# Altium integrated library Atmel Microcontroller megaAVR.IntLib: 654 symbols (part 27 of 29)
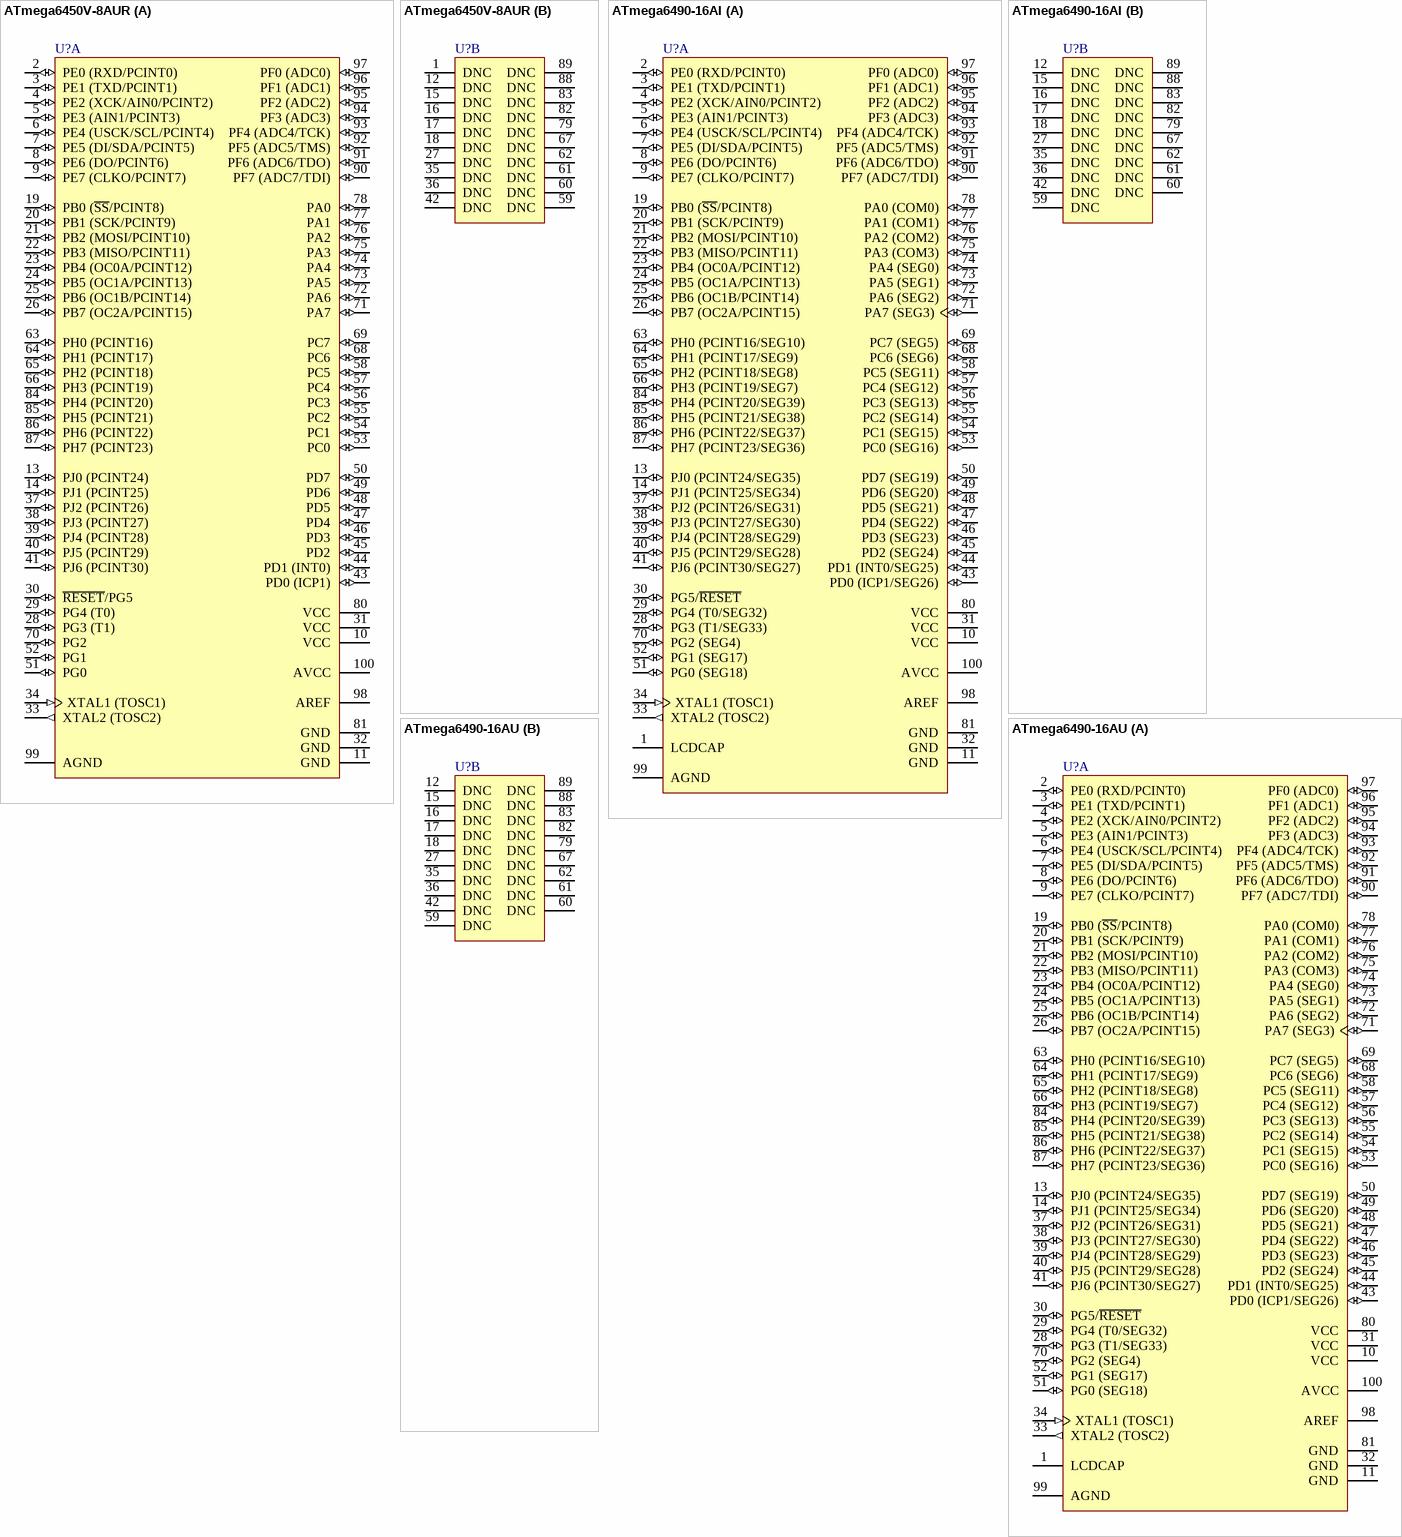
[diagram p113: symbols ATmega6450V-8AUR to ATmega6490-16AU]

## ATmega6490-16AI
designator U?
8-bit AVR Microcontroller, 2.7-5.5V, 64KB Flash, 2KB EEPROM, 4KB SRAM, 100-pin TQFP, Industrial Grade (-40°C to 85°C); DatasheetVersion: revJ, Aug-2007; PackageVersion: revD, Oct-2010; PackageReference: 100A; PackageDescription: 100-Pin Thin Profile Plastic Quad Flat Pack (TQFP), 14 x 14 x 1.0 mm Body, 0.5 mm Pitch; Code_JEDEC: MS-026-AED; ComponentLink1Description: Manufacturer URL; ComponentLink1URL: http://www.atmel.com/
footprint 100A_N (Thin QFP, 100-Leads, Body 14x14mm, Pitch 0.5mm, IPC Medium Density)
footprint 100A_L (Thin QFP, 100-Leads, Body 14x14mm, Pitch 0.5mm, IPC High Density)
footprint 100A_M (Thin QFP, 100-Leads, Body 14x14mm, Pitch 0.5mm, IPC Low Density)
part A pins: 1 LCDCAP, 2 PE0 (RXD/PCINT0) (io), 3 PE1 (TXD/PCINT1) (io), 4 PE2 (XCK/AIN0/PCINT2) (io), 5 PE3 (AIN1/PCINT3) (io), 6 PE4 (USCK/SCL/PCINT4) (io), 7 PE5 (DI/SDA/PCINT5) (io), 8 PE6 (DO/PCINT6) (io), 9 PE7 (CLKO/PCINT7) (io), 10 VCC (power), 11 GND (power), 13 PJ0 (PCINT24/SEG35) (io), 14 PJ1 (PCINT25/SEG34) (io), 19 PB0 (~{SS}/PCINT8) (io), 20 PB1 (SCK/PCINT9) (io), 21 PB2 (MOSI/PCINT10) (io), 22 PB3 (MISO/PCINT11) (io), 23 PB4 (OC0A/PCINT12) (io), 24 PB5 (OC1A/PCINT13) (io), 25 PB6 (OC1B/PCINT14) (io), 26 PB7 (OC2A/PCINT15) (io), 28 PG3 (T1/SEG33) (io), 29 PG4 (T0/SEG32) (io), 30 PG5/~{RESET} (io), 31 VCC (power), 32 GND (power), 33 XTAL2 (TOSC2) (out), 34 XTAL1 (TOSC1) (in), 37 PJ2 (PCINT26/SEG31) (io), 38 PJ3 (PCINT27/SEG30) (io), 39 PJ4 (PCINT28/SEG29) (io), 40 PJ5 (PCINT29/SEG28) (io), 41 PJ6 (PCINT30/SEG27) (io), 43 PD0 (ICP1/SEG26) (io), 44 PD1 (INT0/SEG25) (io), 45 PD2 (SEG24) (io), 46 PD3 (SEG23) (io), 47 PD4 (SEG22) (io), 48 PD5 (SEG21) (io), 49 PD6 (SEG20) (io), 50 PD7 (SEG19) (io), 51 PG0 (SEG18) (io), 52 PG1 (SEG17) (io), 53 PC0 (SEG16) (io), 54 PC1 (SEG15) (io), 55 PC2 (SEG14) (io), 56 PC3 (SEG13) (io), 57 PC4 (SEG12) (io), 58 PC5 (SEG11) (io), 63 PH0 (PCINT16/SEG10) (io), 64 PH1 (PCINT17/SEG9) (io), 65 PH2 (PCINT18/SEG8) (io), 66 PH3 (PCINT19/SEG7) (io), 68 PC6 (SEG6) (io), 69 PC7 (SEG5) (io), 70 PG2 (SEG4) (io), 71 PA7 (SEG3) (io), 72 PA6 (SEG2) (io), 73 PA5 (SEG1) (io), 74 PA4 (SEG0) (io), 75 PA3 (COM3) (io), 76 PA2 (COM2) (io), 77 PA1 (COM1) (io), 78 PA0 (COM0) (io), 80 VCC (power), 81 GND (power), 84 PH4 (PCINT20/SEG39) (io), 85 PH5 (PCINT21/SEG38) (io), 86 PH6 (PCINT22/SEG37) (io), 87 PH7 (PCINT23/SEG36) (io), 90 PF7 (ADC7/TDI) (io), 91 PF6 (ADC6/TDO) (io), 92 PF5 (ADC5/TMS) (io), 93 PF4 (ADC4/TCK) (io), 94 PF3 (ADC3) (io), 95 PF2 (ADC2) (io), 96 PF1 (ADC1) (io), 97 PF0 (ADC0) (io), 98 AREF (power), 99 AGND (power), 100 AVCC (power)
part B pins: 12 DNC, 15 DNC, 16 DNC, 17 DNC, 18 DNC, 27 DNC, 35 DNC, 36 DNC, 42 DNC, 59 DNC, 60 DNC, 61 DNC, 62 DNC, 67 DNC, 79 DNC, 82 DNC, 83 DNC, 88 DNC, 89 DNC

## ATmega6490-16AU
designator U?
8-bit AVR Microcontroller, 2.7-5.5V, 64KB Flash, 2KB EEPROM, 4KB SRAM, 100-pin TQFP, Industrial Grade (-40°C to 85°C); DatasheetVersion: revK, Apr-2011; PackageVersion: revD, Oct-2010; PackageReference: 100A; PackageDescription: 100-Pin Thin Profile Plastic Quad Flat Pack (TQFP), 14 x 14 x 1.0 mm Body, 0.5 mm Pitch; Code_JEDEC: MS-026-AED; ComponentLink1Description: Manufacturer URL; ComponentLink1URL: http://www.atmel.com/; ComponentLink2Description: ATmega329/3290/649/6490 Datasheet; ComponentLink2URL: http://www.atmel.com/dyn/resources/prod_documents/doc2552.pdf; ComponentLink3Description: ATmega329/3290/649/6490 Summary; ComponentLink3URL: http://www.atmel.com/dyn/resources/prod_documents/2552S.pdf
footprint 100A_N (Thin QFP, 100-Leads, Body 14x14mm, Pitch 0.5mm, IPC Medium Density)
footprint 100A_L (Thin QFP, 100-Leads, Body 14x14mm, Pitch 0.5mm, IPC High Density)
footprint 100A_M (Thin QFP, 100-Leads, Body 14x14mm, Pitch 0.5mm, IPC Low Density)
part A pins: 1 LCDCAP, 2 PE0 (RXD/PCINT0) (io), 3 PE1 (TXD/PCINT1) (io), 4 PE2 (XCK/AIN0/PCINT2) (io), 5 PE3 (AIN1/PCINT3) (io), 6 PE4 (USCK/SCL/PCINT4) (io), 7 PE5 (DI/SDA/PCINT5) (io), 8 PE6 (DO/PCINT6) (io), 9 PE7 (CLKO/PCINT7) (io), 10 VCC (power), 11 GND (power), 13 PJ0 (PCINT24/SEG35) (io), 14 PJ1 (PCINT25/SEG34) (io), 19 PB0 (~{SS}/PCINT8) (io), 20 PB1 (SCK/PCINT9) (io), 21 PB2 (MOSI/PCINT10) (io), 22 PB3 (MISO/PCINT11) (io), 23 PB4 (OC0A/PCINT12) (io), 24 PB5 (OC1A/PCINT13) (io), 25 PB6 (OC1B/PCINT14) (io), 26 PB7 (OC2A/PCINT15) (io), 28 PG3 (T1/SEG33) (io), 29 PG4 (T0/SEG32) (io), 30 PG5/~{RESET} (io), 31 VCC (power), 32 GND (power), 33 XTAL2 (TOSC2) (out), 34 XTAL1 (TOSC1) (in), 37 PJ2 (PCINT26/SEG31) (io), 38 PJ3 (PCINT27/SEG30) (io), 39 PJ4 (PCINT28/SEG29) (io), 40 PJ5 (PCINT29/SEG28) (io), 41 PJ6 (PCINT30/SEG27) (io), 43 PD0 (ICP1/SEG26) (io), 44 PD1 (INT0/SEG25) (io), 45 PD2 (SEG24) (io), 46 PD3 (SEG23) (io), 47 PD4 (SEG22) (io), 48 PD5 (SEG21) (io), 49 PD6 (SEG20) (io), 50 PD7 (SEG19) (io), 51 PG0 (SEG18) (io), 52 PG1 (SEG17) (io), 53 PC0 (SEG16) (io), 54 PC1 (SEG15) (io), 55 PC2 (SEG14) (io), 56 PC3 (SEG13) (io), 57 PC4 (SEG12) (io), 58 PC5 (SEG11) (io), 63 PH0 (PCINT16/SEG10) (io), 64 PH1 (PCINT17/SEG9) (io), 65 PH2 (PCINT18/SEG8) (io), 66 PH3 (PCINT19/SEG7) (io), 68 PC6 (SEG6) (io), 69 PC7 (SEG5) (io), 70 PG2 (SEG4) (io), 71 PA7 (SEG3) (io), 72 PA6 (SEG2) (io), 73 PA5 (SEG1) (io), 74 PA4 (SEG0) (io), 75 PA3 (COM3) (io), 76 PA2 (COM2) (io), 77 PA1 (COM1) (io), 78 PA0 (COM0) (io), 80 VCC (power), 81 GND (power), 84 PH4 (PCINT20/SEG39) (io), 85 PH5 (PCINT21/SEG38) (io), 86 PH6 (PCINT22/SEG37) (io), 87 PH7 (PCINT23/SEG36) (io), 90 PF7 (ADC7/TDI) (io), 91 PF6 (ADC6/TDO) (io), 92 PF5 (ADC5/TMS) (io), 93 PF4 (ADC4/TCK) (io), 94 PF3 (ADC3) (io), 95 PF2 (ADC2) (io), 96 PF1 (ADC1) (io), 97 PF0 (ADC0) (io), 98 AREF (power), 99 AGND (power), 100 AVCC (power)
part B pins: 12 DNC, 15 DNC, 16 DNC, 17 DNC, 18 DNC, 27 DNC, 35 DNC, 36 DNC, 42 DNC, 59 DNC, 60 DNC, 61 DNC, 62 DNC, 67 DNC, 79 DNC, 82 DNC, 83 DNC, 88 DNC, 89 DNC

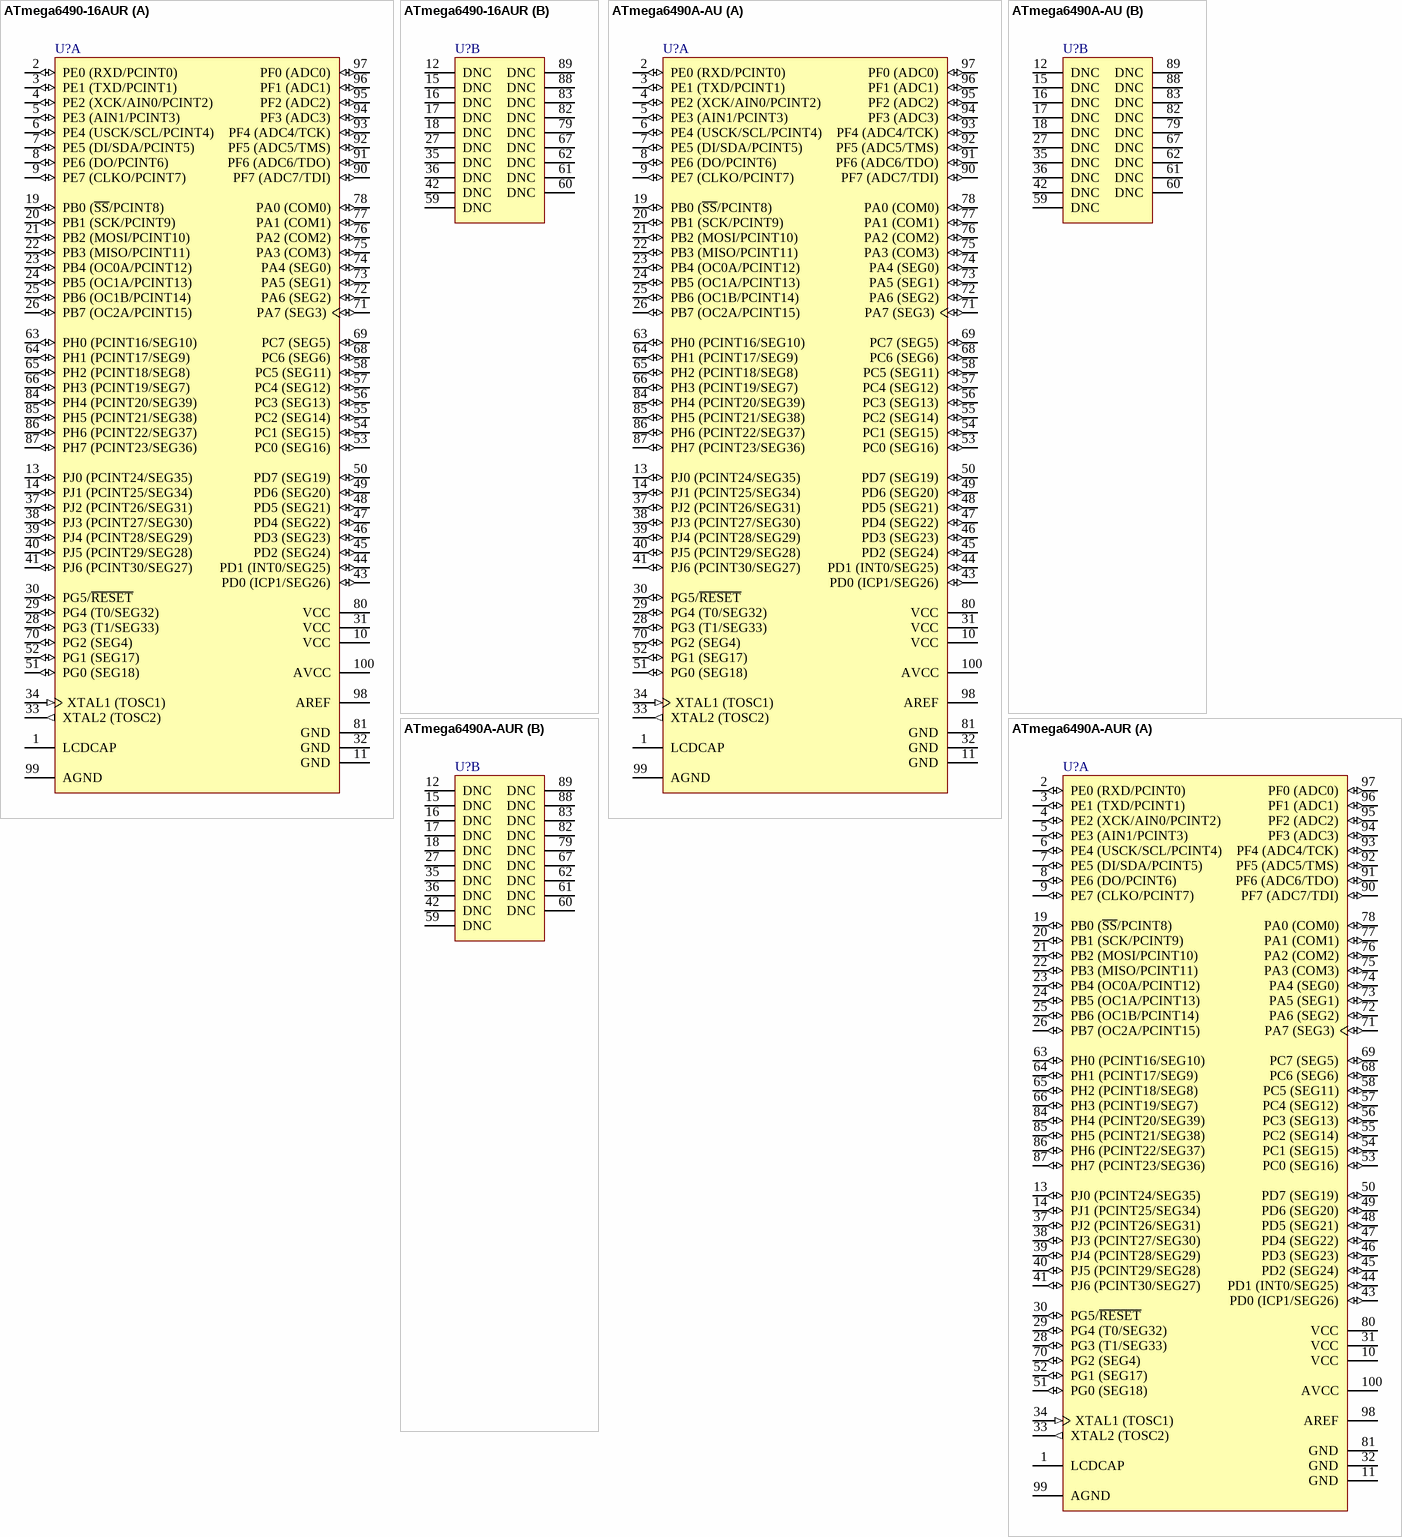
[diagram p81: symbols ATmega6490-16AUR to ATmega6490A-AUR]

## ATmega6490-16AUR
designator U?
8-bit AVR Microcontroller, 2.7-5.5V, 64KB Flash, 2KB EEPROM, 4KB SRAM, 100-pin TQFP, Industrial Grade (-40°C to 85°C), Reel; DatasheetVersion: revK, Apr-2011; PackageVersion: revD, Oct-2010; PackageReference: 100A; PackageDescription: 100-Pin Thin Profile Plastic Quad Flat Pack (TQFP), 14 x 14 x 1.0 mm Body, 0.5 mm Pitch; Code_JEDEC: MS-026-AED; ComponentLink1Description: Manufacturer URL; ComponentLink1URL: http://www.atmel.com/; ComponentLink2Description: ATmega329/3290/649/6490 Datasheet; ComponentLink2URL: http://www.atmel.com/dyn/resources/prod_documents/doc2552.pdf; ComponentLink3Description: ATmega329/3290/649/6490 Summary; ComponentLink3URL: http://www.atmel.com/dyn/resources/prod_documents/2552S.pdf
footprint 100A_N (Thin QFP, 100-Leads, Body 14x14mm, Pitch 0.5mm, IPC Medium Density)
footprint 100A_L (Thin QFP, 100-Leads, Body 14x14mm, Pitch 0.5mm, IPC High Density)
footprint 100A_M (Thin QFP, 100-Leads, Body 14x14mm, Pitch 0.5mm, IPC Low Density)
part A pins: 1 LCDCAP, 2 PE0 (RXD/PCINT0) (io), 3 PE1 (TXD/PCINT1) (io), 4 PE2 (XCK/AIN0/PCINT2) (io), 5 PE3 (AIN1/PCINT3) (io), 6 PE4 (USCK/SCL/PCINT4) (io), 7 PE5 (DI/SDA/PCINT5) (io), 8 PE6 (DO/PCINT6) (io), 9 PE7 (CLKO/PCINT7) (io), 10 VCC (power), 11 GND (power), 13 PJ0 (PCINT24/SEG35) (io), 14 PJ1 (PCINT25/SEG34) (io), 19 PB0 (~{SS}/PCINT8) (io), 20 PB1 (SCK/PCINT9) (io), 21 PB2 (MOSI/PCINT10) (io), 22 PB3 (MISO/PCINT11) (io), 23 PB4 (OC0A/PCINT12) (io), 24 PB5 (OC1A/PCINT13) (io), 25 PB6 (OC1B/PCINT14) (io), 26 PB7 (OC2A/PCINT15) (io), 28 PG3 (T1/SEG33) (io), 29 PG4 (T0/SEG32) (io), 30 PG5/~{RESET} (io), 31 VCC (power), 32 GND (power), 33 XTAL2 (TOSC2) (out), 34 XTAL1 (TOSC1) (in), 37 PJ2 (PCINT26/SEG31) (io), 38 PJ3 (PCINT27/SEG30) (io), 39 PJ4 (PCINT28/SEG29) (io), 40 PJ5 (PCINT29/SEG28) (io), 41 PJ6 (PCINT30/SEG27) (io), 43 PD0 (ICP1/SEG26) (io), 44 PD1 (INT0/SEG25) (io), 45 PD2 (SEG24) (io), 46 PD3 (SEG23) (io), 47 PD4 (SEG22) (io), 48 PD5 (SEG21) (io), 49 PD6 (SEG20) (io), 50 PD7 (SEG19) (io), 51 PG0 (SEG18) (io), 52 PG1 (SEG17) (io), 53 PC0 (SEG16) (io), 54 PC1 (SEG15) (io), 55 PC2 (SEG14) (io), 56 PC3 (SEG13) (io), 57 PC4 (SEG12) (io), 58 PC5 (SEG11) (io), 63 PH0 (PCINT16/SEG10) (io), 64 PH1 (PCINT17/SEG9) (io), 65 PH2 (PCINT18/SEG8) (io), 66 PH3 (PCINT19/SEG7) (io), 68 PC6 (SEG6) (io), 69 PC7 (SEG5) (io), 70 PG2 (SEG4) (io), 71 PA7 (SEG3) (io), 72 PA6 (SEG2) (io), 73 PA5 (SEG1) (io), 74 PA4 (SEG0) (io), 75 PA3 (COM3) (io), 76 PA2 (COM2) (io), 77 PA1 (COM1) (io), 78 PA0 (COM0) (io), 80 VCC (power), 81 GND (power), 84 PH4 (PCINT20/SEG39) (io), 85 PH5 (PCINT21/SEG38) (io), 86 PH6 (PCINT22/SEG37) (io), 87 PH7 (PCINT23/SEG36) (io), 90 PF7 (ADC7/TDI) (io), 91 PF6 (ADC6/TDO) (io), 92 PF5 (ADC5/TMS) (io), 93 PF4 (ADC4/TCK) (io), 94 PF3 (ADC3) (io), 95 PF2 (ADC2) (io), 96 PF1 (ADC1) (io), 97 PF0 (ADC0) (io), 98 AREF (power), 99 AGND (power), 100 AVCC (power)
part B pins: 12 DNC, 15 DNC, 16 DNC, 17 DNC, 18 DNC, 27 DNC, 35 DNC, 36 DNC, 42 DNC, 59 DNC, 60 DNC, 61 DNC, 62 DNC, 67 DNC, 79 DNC, 82 DNC, 83 DNC, 88 DNC, 89 DNC

## ATmega6490A-AU
designator U?
8-bit AVR Microcontroller, 1.8-5.5V, 64KB Flash, 2KB EEPROM, 4KB SRAM, 100-pin TQFP, Industrial Grade (-40°C to 85°C); DatasheetVersion: revD, Jun-2011; PackageVersion: revD, Oct-2010; PackageReference: 100A; PackageDescription: 100-Pin Thin Profile Plastic Quad Flat Pack (TQFP), 14 x 14 x 1.0 mm Body, 0.5 mm Pitch; Code_JEDEC: MS-026-AED; ComponentLink1Description: Manufacturer URL; ComponentLink1URL: http://www.atmel.com/; ComponentLink2Description: ATmega169A/PA/329A/PA/3290A/PA/649A/P/6490A/P; ComponentLink2URL: http://www.atmel.com/dyn/resources/prod_documents/doc8284.pdf; ComponentLink3Description: ATmega169A/PA/329A/PA/3290A/PA/649A/P/6490/A/P Summary; ComponentLink3URL: http://www.atmel.com/dyn/resources/prod_documents/8284S.pdf
footprint 100A_N (Thin QFP, 100-Leads, Body 14x14mm, Pitch 0.5mm, IPC Medium Density)
footprint 100A_L (Thin QFP, 100-Leads, Body 14x14mm, Pitch 0.5mm, IPC High Density)
footprint 100A_M (Thin QFP, 100-Leads, Body 14x14mm, Pitch 0.5mm, IPC Low Density)
part A pins: 1 LCDCAP, 2 PE0 (RXD/PCINT0) (io), 3 PE1 (TXD/PCINT1) (io), 4 PE2 (XCK/AIN0/PCINT2) (io), 5 PE3 (AIN1/PCINT3) (io), 6 PE4 (USCK/SCL/PCINT4) (io), 7 PE5 (DI/SDA/PCINT5) (io), 8 PE6 (DO/PCINT6) (io), 9 PE7 (CLKO/PCINT7) (io), 10 VCC (power), 11 GND (power), 13 PJ0 (PCINT24/SEG35) (io), 14 PJ1 (PCINT25/SEG34) (io), 19 PB0 (~{SS}/PCINT8) (io), 20 PB1 (SCK/PCINT9) (io), 21 PB2 (MOSI/PCINT10) (io), 22 PB3 (MISO/PCINT11) (io), 23 PB4 (OC0A/PCINT12) (io), 24 PB5 (OC1A/PCINT13) (io), 25 PB6 (OC1B/PCINT14) (io), 26 PB7 (OC2A/PCINT15) (io), 28 PG3 (T1/SEG33) (io), 29 PG4 (T0/SEG32) (io), 30 PG5/~{RESET} (io), 31 VCC (power), 32 GND (power), 33 XTAL2 (TOSC2) (out), 34 XTAL1 (TOSC1) (in), 37 PJ2 (PCINT26/SEG31) (io), 38 PJ3 (PCINT27/SEG30) (io), 39 PJ4 (PCINT28/SEG29) (io), 40 PJ5 (PCINT29/SEG28) (io), 41 PJ6 (PCINT30/SEG27) (io), 43 PD0 (ICP1/SEG26) (io), 44 PD1 (INT0/SEG25) (io), 45 PD2 (SEG24) (io), 46 PD3 (SEG23) (io), 47 PD4 (SEG22) (io), 48 PD5 (SEG21) (io), 49 PD6 (SEG20) (io), 50 PD7 (SEG19) (io), 51 PG0 (SEG18) (io), 52 PG1 (SEG17) (io), 53 PC0 (SEG16) (io), 54 PC1 (SEG15) (io), 55 PC2 (SEG14) (io), 56 PC3 (SEG13) (io), 57 PC4 (SEG12) (io), 58 PC5 (SEG11) (io), 63 PH0 (PCINT16/SEG10) (io), 64 PH1 (PCINT17/SEG9) (io), 65 PH2 (PCINT18/SEG8) (io), 66 PH3 (PCINT19/SEG7) (io), 68 PC6 (SEG6) (io), 69 PC7 (SEG5) (io), 70 PG2 (SEG4) (io), 71 PA7 (SEG3) (io), 72 PA6 (SEG2) (io), 73 PA5 (SEG1) (io), 74 PA4 (SEG0) (io), 75 PA3 (COM3) (io), 76 PA2 (COM2) (io), 77 PA1 (COM1) (io), 78 PA0 (COM0) (io), 80 VCC (power), 81 GND (power), 84 PH4 (PCINT20/SEG39) (io), 85 PH5 (PCINT21/SEG38) (io), 86 PH6 (PCINT22/SEG37) (io), 87 PH7 (PCINT23/SEG36) (io), 90 PF7 (ADC7/TDI) (io), 91 PF6 (ADC6/TDO) (io), 92 PF5 (ADC5/TMS) (io), 93 PF4 (ADC4/TCK) (io), 94 PF3 (ADC3) (io), 95 PF2 (ADC2) (io), 96 PF1 (ADC1) (io), 97 PF0 (ADC0) (io), 98 AREF (power), 99 AGND (power), 100 AVCC (power)
part B pins: 12 DNC, 15 DNC, 16 DNC, 17 DNC, 18 DNC, 27 DNC, 35 DNC, 36 DNC, 42 DNC, 59 DNC, 60 DNC, 61 DNC, 62 DNC, 67 DNC, 79 DNC, 82 DNC, 83 DNC, 88 DNC, 89 DNC

## ATmega6490A-AUR
designator U?
8-bit AVR Microcontroller, 1.8-5.5V, 64KB Flash, 2KB EEPROM, 4KB SRAM, 100-pin TQFP, Industrial Grade (-40°C to 85°C), Reel; DatasheetVersion: revD, Jun-2011; PackageVersion: revD, Oct-2010; PackageReference: 100A; PackageDescription: 100-Pin Thin Profile Plastic Quad Flat Pack (TQFP), 14 x 14 x 1.0 mm Body, 0.5 mm Pitch; Code_JEDEC: MS-026-AED; ComponentLink1Description: Manufacturer URL; ComponentLink1URL: http://www.atmel.com/; ComponentLink2Description: ATmega169A/PA/329A/PA/3290A/PA/649A/P/6490A/P; ComponentLink2URL: http://www.atmel.com/dyn/resources/prod_documents/doc8284.pdf; ComponentLink3Description: ATmega169A/PA/329A/PA/3290A/PA/649A/P/6490/A/P Summary; ComponentLink3URL: http://www.atmel.com/dyn/resources/prod_documents/8284S.pdf
footprint 100A_N (Thin QFP, 100-Leads, Body 14x14mm, Pitch 0.5mm, IPC Medium Density)
footprint 100A_L (Thin QFP, 100-Leads, Body 14x14mm, Pitch 0.5mm, IPC High Density)
footprint 100A_M (Thin QFP, 100-Leads, Body 14x14mm, Pitch 0.5mm, IPC Low Density)
part A pins: 1 LCDCAP, 2 PE0 (RXD/PCINT0) (io), 3 PE1 (TXD/PCINT1) (io), 4 PE2 (XCK/AIN0/PCINT2) (io), 5 PE3 (AIN1/PCINT3) (io), 6 PE4 (USCK/SCL/PCINT4) (io), 7 PE5 (DI/SDA/PCINT5) (io), 8 PE6 (DO/PCINT6) (io), 9 PE7 (CLKO/PCINT7) (io), 10 VCC (power), 11 GND (power), 13 PJ0 (PCINT24/SEG35) (io), 14 PJ1 (PCINT25/SEG34) (io), 19 PB0 (~{SS}/PCINT8) (io), 20 PB1 (SCK/PCINT9) (io), 21 PB2 (MOSI/PCINT10) (io), 22 PB3 (MISO/PCINT11) (io), 23 PB4 (OC0A/PCINT12) (io), 24 PB5 (OC1A/PCINT13) (io), 25 PB6 (OC1B/PCINT14) (io), 26 PB7 (OC2A/PCINT15) (io), 28 PG3 (T1/SEG33) (io), 29 PG4 (T0/SEG32) (io), 30 PG5/~{RESET} (io), 31 VCC (power), 32 GND (power), 33 XTAL2 (TOSC2) (out), 34 XTAL1 (TOSC1) (in), 37 PJ2 (PCINT26/SEG31) (io), 38 PJ3 (PCINT27/SEG30) (io), 39 PJ4 (PCINT28/SEG29) (io), 40 PJ5 (PCINT29/SEG28) (io), 41 PJ6 (PCINT30/SEG27) (io), 43 PD0 (ICP1/SEG26) (io), 44 PD1 (INT0/SEG25) (io), 45 PD2 (SEG24) (io), 46 PD3 (SEG23) (io), 47 PD4 (SEG22) (io), 48 PD5 (SEG21) (io), 49 PD6 (SEG20) (io), 50 PD7 (SEG19) (io), 51 PG0 (SEG18) (io), 52 PG1 (SEG17) (io), 53 PC0 (SEG16) (io), 54 PC1 (SEG15) (io), 55 PC2 (SEG14) (io), 56 PC3 (SEG13) (io), 57 PC4 (SEG12) (io), 58 PC5 (SEG11) (io), 63 PH0 (PCINT16/SEG10) (io), 64 PH1 (PCINT17/SEG9) (io), 65 PH2 (PCINT18/SEG8) (io), 66 PH3 (PCINT19/SEG7) (io), 68 PC6 (SEG6) (io), 69 PC7 (SEG5) (io), 70 PG2 (SEG4) (io), 71 PA7 (SEG3) (io), 72 PA6 (SEG2) (io), 73 PA5 (SEG1) (io), 74 PA4 (SEG0) (io), 75 PA3 (COM3) (io), 76 PA2 (COM2) (io), 77 PA1 (COM1) (io), 78 PA0 (COM0) (io), 80 VCC (power), 81 GND (power), 84 PH4 (PCINT20/SEG39) (io), 85 PH5 (PCINT21/SEG38) (io), 86 PH6 (PCINT22/SEG37) (io), 87 PH7 (PCINT23/SEG36) (io), 90 PF7 (ADC7/TDI) (io), 91 PF6 (ADC6/TDO) (io), 92 PF5 (ADC5/TMS) (io), 93 PF4 (ADC4/TCK) (io), 94 PF3 (ADC3) (io), 95 PF2 (ADC2) (io), 96 PF1 (ADC1) (io), 97 PF0 (ADC0) (io), 98 AREF (power), 99 AGND (power), 100 AVCC (power)
part B pins: 12 DNC, 15 DNC, 16 DNC, 17 DNC, 18 DNC, 27 DNC, 35 DNC, 36 DNC, 42 DNC, 59 DNC, 60 DNC, 61 DNC, 62 DNC, 67 DNC, 79 DNC, 82 DNC, 83 DNC, 88 DNC, 89 DNC

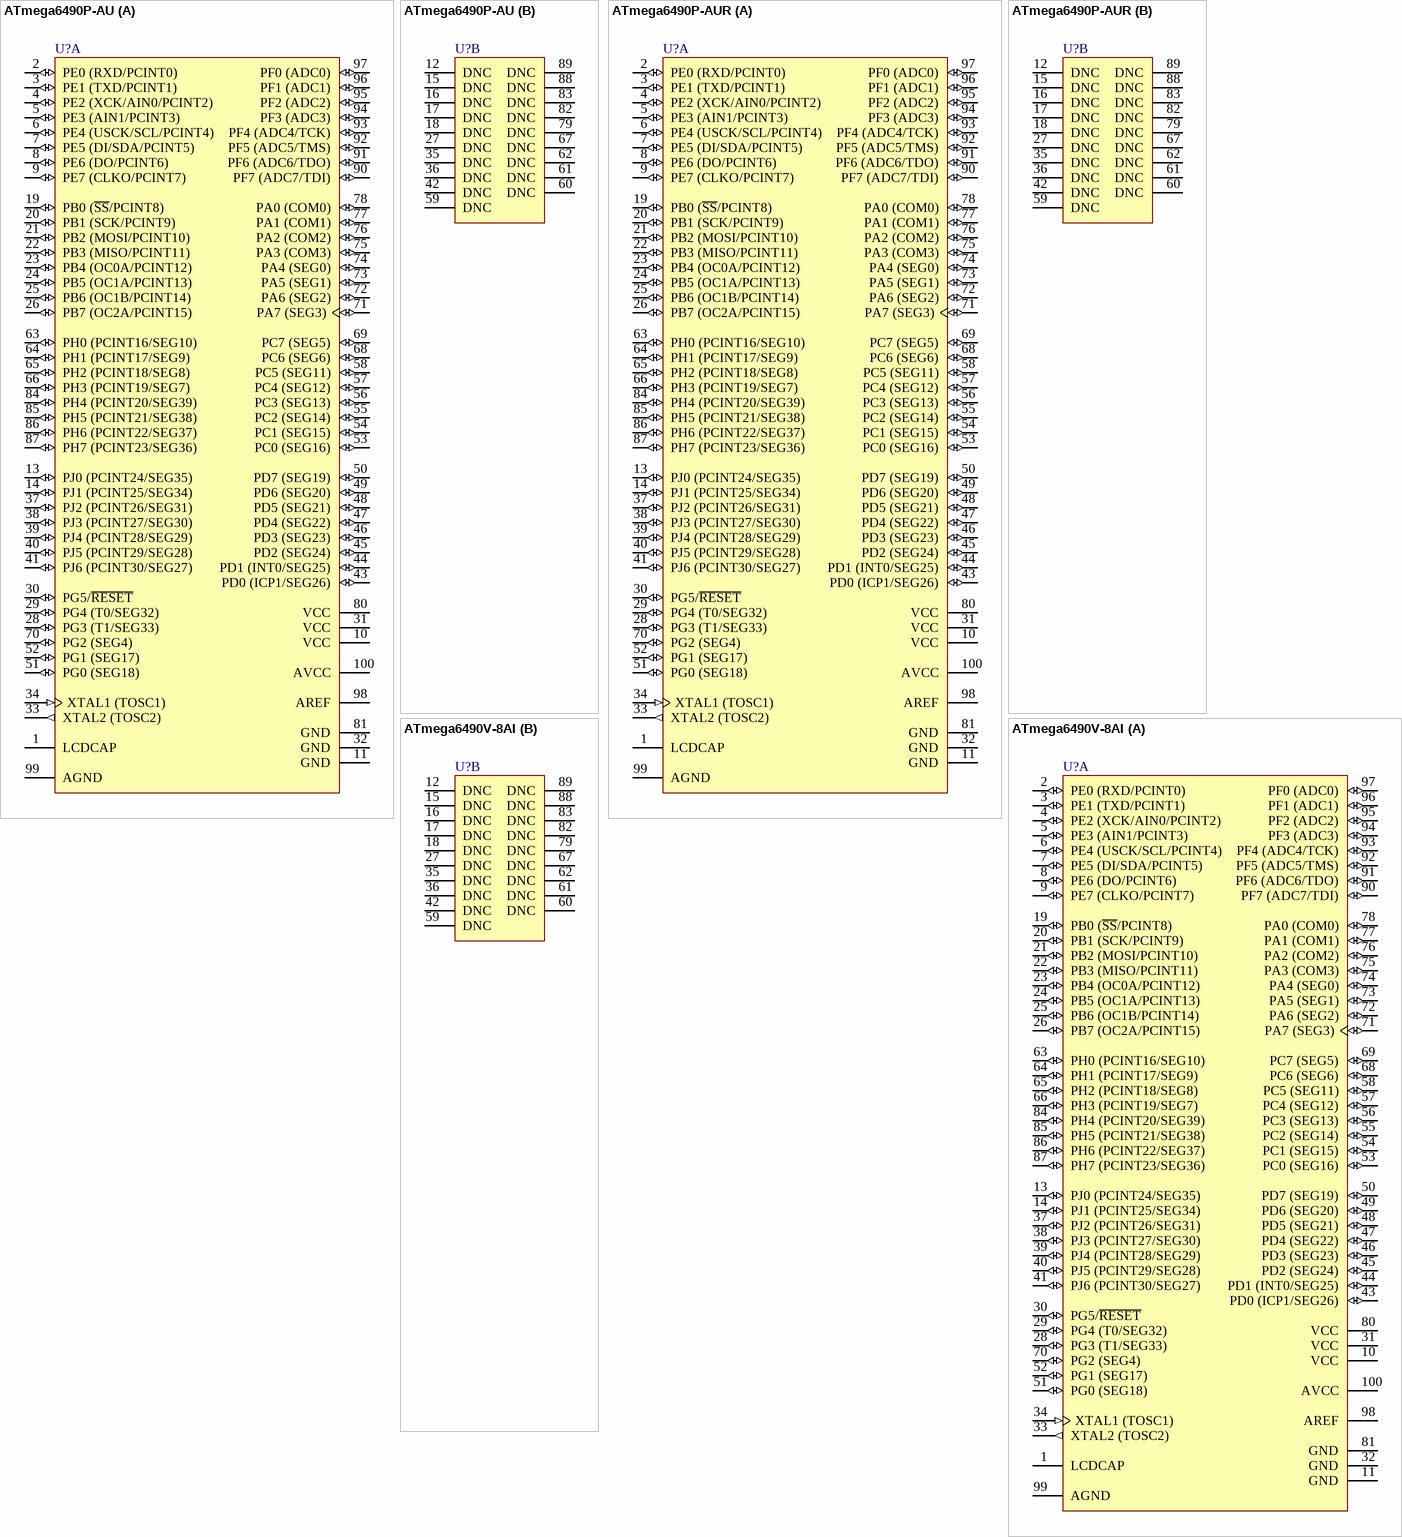
[diagram p82: symbols ATmega6490P-AU to ATmega6490V-8AI]

## ATmega6490P-AU
designator U?
8-bit AVR Microcontroller, 1.8-5.5V, 64KB Flash, 2KB EEPROM, 4KB SRAM, 100-pin TQFP, Industrial Grade (-40°C to 85°C); DatasheetVersion: revD, Jun-2011; PackageVersion: revD, Oct-2010; PackageReference: 100A; PackageDescription: 100-Pin Thin Profile Plastic Quad Flat Pack (TQFP), 14 x 14 x 1.0 mm Body, 0.5 mm Pitch; Code_JEDEC: MS-026-AED; ComponentLink1Description: Manufacturer URL; ComponentLink1URL: http://www.atmel.com/; ComponentLink2Description: ATmega169A/PA/329A/PA/3290A/PA/649A/P/6490A/P; ComponentLink2URL: http://www.atmel.com/dyn/resources/prod_documents/doc8284.pdf; ComponentLink3Description: ATmega169A/PA/329A/PA/3290A/PA/649A/P/6490/A/P Summary; ComponentLink3URL: http://www.atmel.com/dyn/resources/prod_documents/8284S.pdf
footprint 100A_N (Thin QFP, 100-Leads, Body 14x14mm, Pitch 0.5mm, IPC Medium Density)
footprint 100A_L (Thin QFP, 100-Leads, Body 14x14mm, Pitch 0.5mm, IPC High Density)
footprint 100A_M (Thin QFP, 100-Leads, Body 14x14mm, Pitch 0.5mm, IPC Low Density)
part A pins: 1 LCDCAP, 2 PE0 (RXD/PCINT0) (io), 3 PE1 (TXD/PCINT1) (io), 4 PE2 (XCK/AIN0/PCINT2) (io), 5 PE3 (AIN1/PCINT3) (io), 6 PE4 (USCK/SCL/PCINT4) (io), 7 PE5 (DI/SDA/PCINT5) (io), 8 PE6 (DO/PCINT6) (io), 9 PE7 (CLKO/PCINT7) (io), 10 VCC (power), 11 GND (power), 13 PJ0 (PCINT24/SEG35) (io), 14 PJ1 (PCINT25/SEG34) (io), 19 PB0 (~{SS}/PCINT8) (io), 20 PB1 (SCK/PCINT9) (io), 21 PB2 (MOSI/PCINT10) (io), 22 PB3 (MISO/PCINT11) (io), 23 PB4 (OC0A/PCINT12) (io), 24 PB5 (OC1A/PCINT13) (io), 25 PB6 (OC1B/PCINT14) (io), 26 PB7 (OC2A/PCINT15) (io), 28 PG3 (T1/SEG33) (io), 29 PG4 (T0/SEG32) (io), 30 PG5/~{RESET} (io), 31 VCC (power), 32 GND (power), 33 XTAL2 (TOSC2) (out), 34 XTAL1 (TOSC1) (in), 37 PJ2 (PCINT26/SEG31) (io), 38 PJ3 (PCINT27/SEG30) (io), 39 PJ4 (PCINT28/SEG29) (io), 40 PJ5 (PCINT29/SEG28) (io), 41 PJ6 (PCINT30/SEG27) (io), 43 PD0 (ICP1/SEG26) (io), 44 PD1 (INT0/SEG25) (io), 45 PD2 (SEG24) (io), 46 PD3 (SEG23) (io), 47 PD4 (SEG22) (io), 48 PD5 (SEG21) (io), 49 PD6 (SEG20) (io), 50 PD7 (SEG19) (io), 51 PG0 (SEG18) (io), 52 PG1 (SEG17) (io), 53 PC0 (SEG16) (io), 54 PC1 (SEG15) (io), 55 PC2 (SEG14) (io), 56 PC3 (SEG13) (io), 57 PC4 (SEG12) (io), 58 PC5 (SEG11) (io), 63 PH0 (PCINT16/SEG10) (io), 64 PH1 (PCINT17/SEG9) (io), 65 PH2 (PCINT18/SEG8) (io), 66 PH3 (PCINT19/SEG7) (io), 68 PC6 (SEG6) (io), 69 PC7 (SEG5) (io), 70 PG2 (SEG4) (io), 71 PA7 (SEG3) (io), 72 PA6 (SEG2) (io), 73 PA5 (SEG1) (io), 74 PA4 (SEG0) (io), 75 PA3 (COM3) (io), 76 PA2 (COM2) (io), 77 PA1 (COM1) (io), 78 PA0 (COM0) (io), 80 VCC (power), 81 GND (power), 84 PH4 (PCINT20/SEG39) (io), 85 PH5 (PCINT21/SEG38) (io), 86 PH6 (PCINT22/SEG37) (io), 87 PH7 (PCINT23/SEG36) (io), 90 PF7 (ADC7/TDI) (io), 91 PF6 (ADC6/TDO) (io), 92 PF5 (ADC5/TMS) (io), 93 PF4 (ADC4/TCK) (io), 94 PF3 (ADC3) (io), 95 PF2 (ADC2) (io), 96 PF1 (ADC1) (io), 97 PF0 (ADC0) (io), 98 AREF (power), 99 AGND (power), 100 AVCC (power)
part B pins: 12 DNC, 15 DNC, 16 DNC, 17 DNC, 18 DNC, 27 DNC, 35 DNC, 36 DNC, 42 DNC, 59 DNC, 60 DNC, 61 DNC, 62 DNC, 67 DNC, 79 DNC, 82 DNC, 83 DNC, 88 DNC, 89 DNC

## ATmega6490P-AUR
designator U?
8-bit AVR Microcontroller, 1.8-5.5V, 64KB Flash, 2KB EEPROM, 4KB SRAM, 100-pin TQFP, Industrial Grade (-40°C to 85°C), Reel; DatasheetVersion: revD, Jun-2011; PackageVersion: revD, Oct-2010; PackageReference: 100A; PackageDescription: 100-Pin Thin Profile Plastic Quad Flat Pack (TQFP), 14 x 14 x 1.0 mm Body, 0.5 mm Pitch; Code_JEDEC: MS-026-AED; ComponentLink1Description: Manufacturer URL; ComponentLink1URL: http://www.atmel.com/; ComponentLink2Description: ATmega169A/PA/329A/PA/3290A/PA/649A/P/6490A/P; ComponentLink2URL: http://www.atmel.com/dyn/resources/prod_documents/doc8284.pdf; ComponentLink3Description: ATmega169A/PA/329A/PA/3290A/PA/649A/P/6490/A/P Summary; ComponentLink3URL: http://www.atmel.com/dyn/resources/prod_documents/8284S.pdf
footprint 100A_N (Thin QFP, 100-Leads, Body 14x14mm, Pitch 0.5mm, IPC Medium Density)
footprint 100A_L (Thin QFP, 100-Leads, Body 14x14mm, Pitch 0.5mm, IPC High Density)
footprint 100A_M (Thin QFP, 100-Leads, Body 14x14mm, Pitch 0.5mm, IPC Low Density)
part A pins: 1 LCDCAP, 2 PE0 (RXD/PCINT0) (io), 3 PE1 (TXD/PCINT1) (io), 4 PE2 (XCK/AIN0/PCINT2) (io), 5 PE3 (AIN1/PCINT3) (io), 6 PE4 (USCK/SCL/PCINT4) (io), 7 PE5 (DI/SDA/PCINT5) (io), 8 PE6 (DO/PCINT6) (io), 9 PE7 (CLKO/PCINT7) (io), 10 VCC (power), 11 GND (power), 13 PJ0 (PCINT24/SEG35) (io), 14 PJ1 (PCINT25/SEG34) (io), 19 PB0 (~{SS}/PCINT8) (io), 20 PB1 (SCK/PCINT9) (io), 21 PB2 (MOSI/PCINT10) (io), 22 PB3 (MISO/PCINT11) (io), 23 PB4 (OC0A/PCINT12) (io), 24 PB5 (OC1A/PCINT13) (io), 25 PB6 (OC1B/PCINT14) (io), 26 PB7 (OC2A/PCINT15) (io), 28 PG3 (T1/SEG33) (io), 29 PG4 (T0/SEG32) (io), 30 PG5/~{RESET} (io), 31 VCC (power), 32 GND (power), 33 XTAL2 (TOSC2) (out), 34 XTAL1 (TOSC1) (in), 37 PJ2 (PCINT26/SEG31) (io), 38 PJ3 (PCINT27/SEG30) (io), 39 PJ4 (PCINT28/SEG29) (io), 40 PJ5 (PCINT29/SEG28) (io), 41 PJ6 (PCINT30/SEG27) (io), 43 PD0 (ICP1/SEG26) (io), 44 PD1 (INT0/SEG25) (io), 45 PD2 (SEG24) (io), 46 PD3 (SEG23) (io), 47 PD4 (SEG22) (io), 48 PD5 (SEG21) (io), 49 PD6 (SEG20) (io), 50 PD7 (SEG19) (io), 51 PG0 (SEG18) (io), 52 PG1 (SEG17) (io), 53 PC0 (SEG16) (io), 54 PC1 (SEG15) (io), 55 PC2 (SEG14) (io), 56 PC3 (SEG13) (io), 57 PC4 (SEG12) (io), 58 PC5 (SEG11) (io), 63 PH0 (PCINT16/SEG10) (io), 64 PH1 (PCINT17/SEG9) (io), 65 PH2 (PCINT18/SEG8) (io), 66 PH3 (PCINT19/SEG7) (io), 68 PC6 (SEG6) (io), 69 PC7 (SEG5) (io), 70 PG2 (SEG4) (io), 71 PA7 (SEG3) (io), 72 PA6 (SEG2) (io), 73 PA5 (SEG1) (io), 74 PA4 (SEG0) (io), 75 PA3 (COM3) (io), 76 PA2 (COM2) (io), 77 PA1 (COM1) (io), 78 PA0 (COM0) (io), 80 VCC (power), 81 GND (power), 84 PH4 (PCINT20/SEG39) (io), 85 PH5 (PCINT21/SEG38) (io), 86 PH6 (PCINT22/SEG37) (io), 87 PH7 (PCINT23/SEG36) (io), 90 PF7 (ADC7/TDI) (io), 91 PF6 (ADC6/TDO) (io), 92 PF5 (ADC5/TMS) (io), 93 PF4 (ADC4/TCK) (io), 94 PF3 (ADC3) (io), 95 PF2 (ADC2) (io), 96 PF1 (ADC1) (io), 97 PF0 (ADC0) (io), 98 AREF (power), 99 AGND (power), 100 AVCC (power)
part B pins: 12 DNC, 15 DNC, 16 DNC, 17 DNC, 18 DNC, 27 DNC, 35 DNC, 36 DNC, 42 DNC, 59 DNC, 60 DNC, 61 DNC, 62 DNC, 67 DNC, 79 DNC, 82 DNC, 83 DNC, 88 DNC, 89 DNC

## ATmega6490V-8AI
designator U?
8-bit AVR Microcontroller, 1.8-5.5V, 64KB Flash, 2KB EEPROM, 4KB SRAM, 100-pin TQFP, Industrial Grade (-40°C to 85°C); DatasheetVersion: revJ, Aug-2007; PackageVersion: revD, Oct-2010; PackageReference: 100A; PackageDescription: 100-Pin Thin Profile Plastic Quad Flat Pack (TQFP), 14 x 14 x 1.0 mm Body, 0.5 mm Pitch; Code_JEDEC: MS-026-AED; ComponentLink1Description: Manufacturer URL; ComponentLink1URL: http://www.atmel.com/
footprint 100A_N (Thin QFP, 100-Leads, Body 14x14mm, Pitch 0.5mm, IPC Medium Density)
footprint 100A_L (Thin QFP, 100-Leads, Body 14x14mm, Pitch 0.5mm, IPC High Density)
footprint 100A_M (Thin QFP, 100-Leads, Body 14x14mm, Pitch 0.5mm, IPC Low Density)
part A pins: 1 LCDCAP, 2 PE0 (RXD/PCINT0) (io), 3 PE1 (TXD/PCINT1) (io), 4 PE2 (XCK/AIN0/PCINT2) (io), 5 PE3 (AIN1/PCINT3) (io), 6 PE4 (USCK/SCL/PCINT4) (io), 7 PE5 (DI/SDA/PCINT5) (io), 8 PE6 (DO/PCINT6) (io), 9 PE7 (CLKO/PCINT7) (io), 10 VCC (power), 11 GND (power), 13 PJ0 (PCINT24/SEG35) (io), 14 PJ1 (PCINT25/SEG34) (io), 19 PB0 (~{SS}/PCINT8) (io), 20 PB1 (SCK/PCINT9) (io), 21 PB2 (MOSI/PCINT10) (io), 22 PB3 (MISO/PCINT11) (io), 23 PB4 (OC0A/PCINT12) (io), 24 PB5 (OC1A/PCINT13) (io), 25 PB6 (OC1B/PCINT14) (io), 26 PB7 (OC2A/PCINT15) (io), 28 PG3 (T1/SEG33) (io), 29 PG4 (T0/SEG32) (io), 30 PG5/~{RESET} (io), 31 VCC (power), 32 GND (power), 33 XTAL2 (TOSC2) (out), 34 XTAL1 (TOSC1) (in), 37 PJ2 (PCINT26/SEG31) (io), 38 PJ3 (PCINT27/SEG30) (io), 39 PJ4 (PCINT28/SEG29) (io), 40 PJ5 (PCINT29/SEG28) (io), 41 PJ6 (PCINT30/SEG27) (io), 43 PD0 (ICP1/SEG26) (io), 44 PD1 (INT0/SEG25) (io), 45 PD2 (SEG24) (io), 46 PD3 (SEG23) (io), 47 PD4 (SEG22) (io), 48 PD5 (SEG21) (io), 49 PD6 (SEG20) (io), 50 PD7 (SEG19) (io), 51 PG0 (SEG18) (io), 52 PG1 (SEG17) (io), 53 PC0 (SEG16) (io), 54 PC1 (SEG15) (io), 55 PC2 (SEG14) (io), 56 PC3 (SEG13) (io), 57 PC4 (SEG12) (io), 58 PC5 (SEG11) (io), 63 PH0 (PCINT16/SEG10) (io), 64 PH1 (PCINT17/SEG9) (io), 65 PH2 (PCINT18/SEG8) (io), 66 PH3 (PCINT19/SEG7) (io), 68 PC6 (SEG6) (io), 69 PC7 (SEG5) (io), 70 PG2 (SEG4) (io), 71 PA7 (SEG3) (io), 72 PA6 (SEG2) (io), 73 PA5 (SEG1) (io), 74 PA4 (SEG0) (io), 75 PA3 (COM3) (io), 76 PA2 (COM2) (io), 77 PA1 (COM1) (io), 78 PA0 (COM0) (io), 80 VCC (power), 81 GND (power), 84 PH4 (PCINT20/SEG39) (io), 85 PH5 (PCINT21/SEG38) (io), 86 PH6 (PCINT22/SEG37) (io), 87 PH7 (PCINT23/SEG36) (io), 90 PF7 (ADC7/TDI) (io), 91 PF6 (ADC6/TDO) (io), 92 PF5 (ADC5/TMS) (io), 93 PF4 (ADC4/TCK) (io), 94 PF3 (ADC3) (io), 95 PF2 (ADC2) (io), 96 PF1 (ADC1) (io), 97 PF0 (ADC0) (io), 98 AREF (power), 99 AGND (power), 100 AVCC (power)
part B pins: 12 DNC, 15 DNC, 16 DNC, 17 DNC, 18 DNC, 27 DNC, 35 DNC, 36 DNC, 42 DNC, 59 DNC, 60 DNC, 61 DNC, 62 DNC, 67 DNC, 79 DNC, 82 DNC, 83 DNC, 88 DNC, 89 DNC

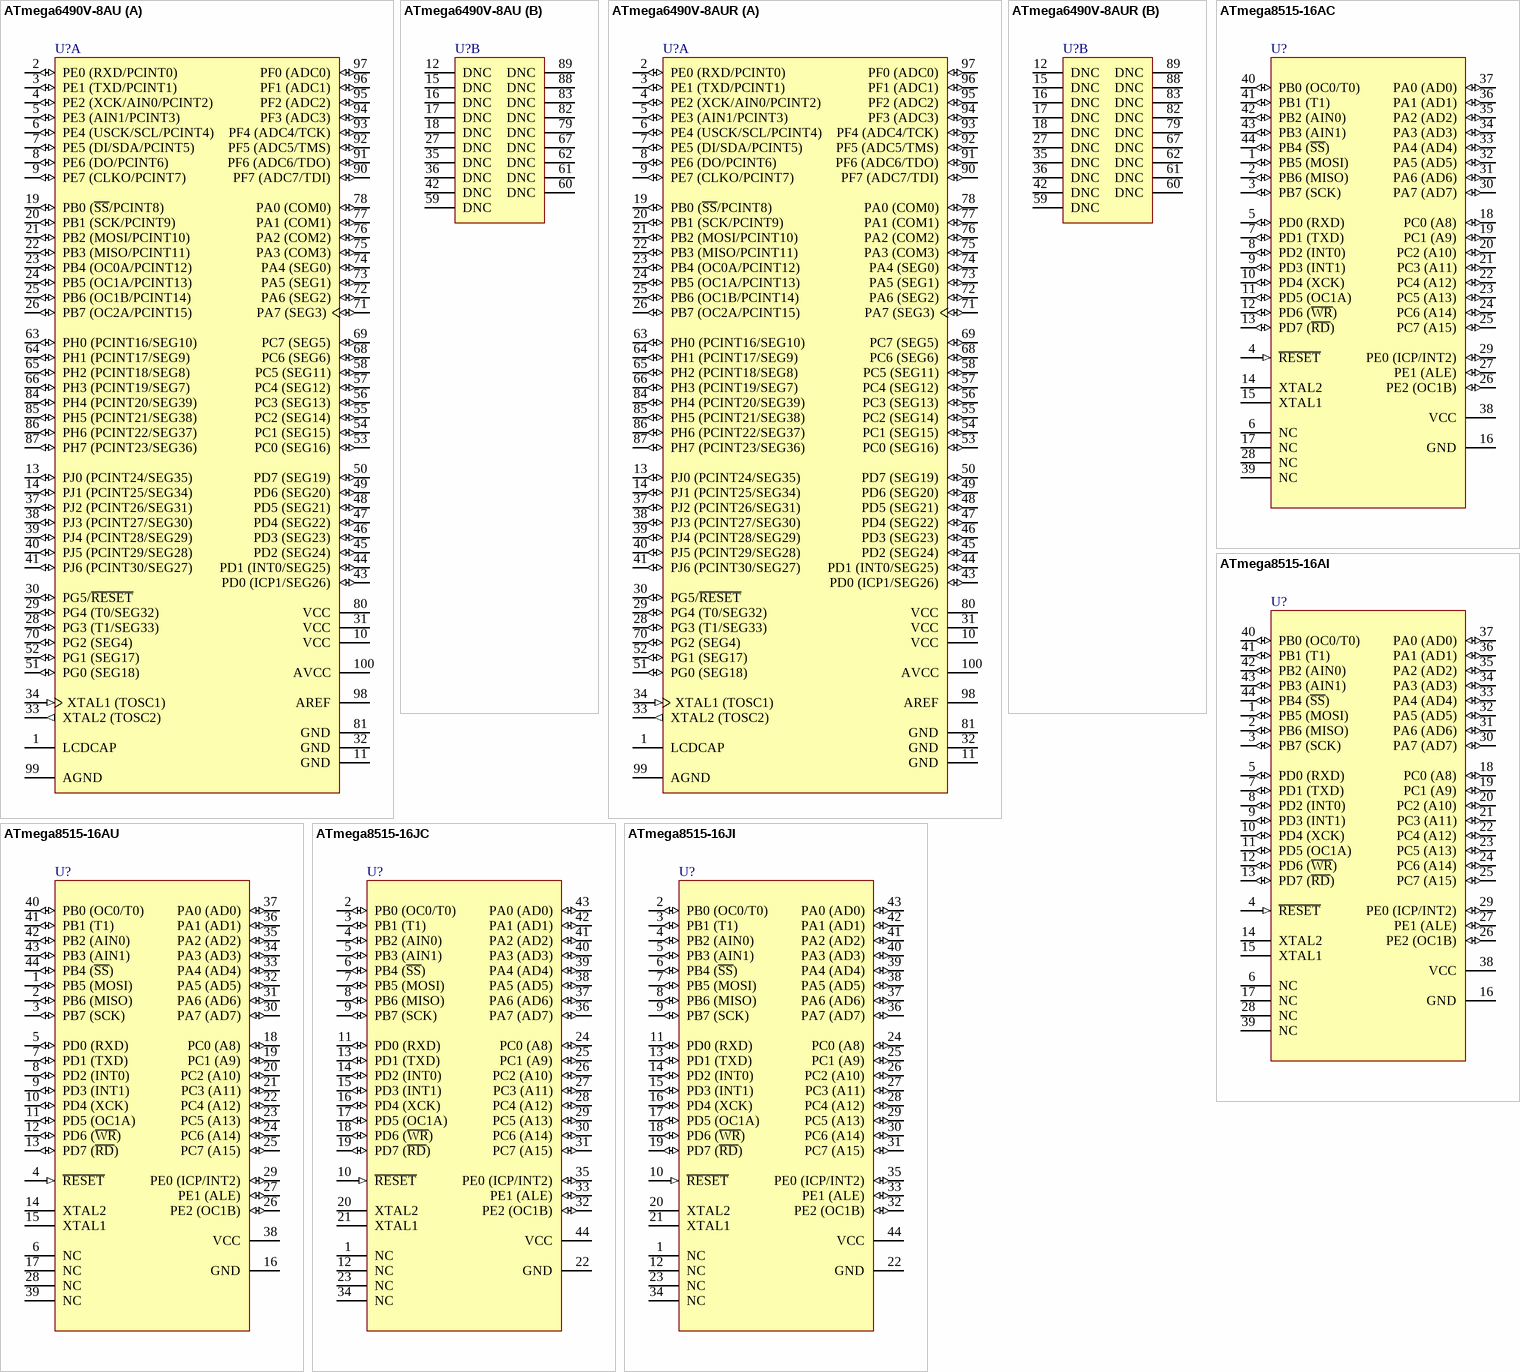
[diagram p83: symbols ATmega6490V-8AU to ATmega8515-16JI]

## ATmega6490V-8AU
designator U?
8-bit AVR Microcontroller, 1.8-5.5V, 64KB Flash, 2KB EEPROM, 4KB SRAM, 100-pin TQFP, Industrial Grade (-40°C to 85°C); DatasheetVersion: revK, Apr-2011; PackageVersion: revD, Oct-2010; PackageReference: 100A; PackageDescription: 100-Pin Thin Profile Plastic Quad Flat Pack (TQFP), 14 x 14 x 1.0 mm Body, 0.5 mm Pitch; Code_JEDEC: MS-026-AED; ComponentLink1Description: Manufacturer URL; ComponentLink1URL: http://www.atmel.com/; ComponentLink2Description: ATmega329/3290/649/6490 Datasheet; ComponentLink2URL: http://www.atmel.com/dyn/resources/prod_documents/doc2552.pdf; ComponentLink3Description: ATmega329/3290/649/6490 Summary; ComponentLink3URL: http://www.atmel.com/dyn/resources/prod_documents/2552S.pdf
footprint 100A_N (Thin QFP, 100-Leads, Body 14x14mm, Pitch 0.5mm, IPC Medium Density)
footprint 100A_L (Thin QFP, 100-Leads, Body 14x14mm, Pitch 0.5mm, IPC High Density)
footprint 100A_M (Thin QFP, 100-Leads, Body 14x14mm, Pitch 0.5mm, IPC Low Density)
part A pins: 1 LCDCAP, 2 PE0 (RXD/PCINT0) (io), 3 PE1 (TXD/PCINT1) (io), 4 PE2 (XCK/AIN0/PCINT2) (io), 5 PE3 (AIN1/PCINT3) (io), 6 PE4 (USCK/SCL/PCINT4) (io), 7 PE5 (DI/SDA/PCINT5) (io), 8 PE6 (DO/PCINT6) (io), 9 PE7 (CLKO/PCINT7) (io), 10 VCC (power), 11 GND (power), 13 PJ0 (PCINT24/SEG35) (io), 14 PJ1 (PCINT25/SEG34) (io), 19 PB0 (~{SS}/PCINT8) (io), 20 PB1 (SCK/PCINT9) (io), 21 PB2 (MOSI/PCINT10) (io), 22 PB3 (MISO/PCINT11) (io), 23 PB4 (OC0A/PCINT12) (io), 24 PB5 (OC1A/PCINT13) (io), 25 PB6 (OC1B/PCINT14) (io), 26 PB7 (OC2A/PCINT15) (io), 28 PG3 (T1/SEG33) (io), 29 PG4 (T0/SEG32) (io), 30 PG5/~{RESET} (io), 31 VCC (power), 32 GND (power), 33 XTAL2 (TOSC2) (out), 34 XTAL1 (TOSC1) (in), 37 PJ2 (PCINT26/SEG31) (io), 38 PJ3 (PCINT27/SEG30) (io), 39 PJ4 (PCINT28/SEG29) (io), 40 PJ5 (PCINT29/SEG28) (io), 41 PJ6 (PCINT30/SEG27) (io), 43 PD0 (ICP1/SEG26) (io), 44 PD1 (INT0/SEG25) (io), 45 PD2 (SEG24) (io), 46 PD3 (SEG23) (io), 47 PD4 (SEG22) (io), 48 PD5 (SEG21) (io), 49 PD6 (SEG20) (io), 50 PD7 (SEG19) (io), 51 PG0 (SEG18) (io), 52 PG1 (SEG17) (io), 53 PC0 (SEG16) (io), 54 PC1 (SEG15) (io), 55 PC2 (SEG14) (io), 56 PC3 (SEG13) (io), 57 PC4 (SEG12) (io), 58 PC5 (SEG11) (io), 63 PH0 (PCINT16/SEG10) (io), 64 PH1 (PCINT17/SEG9) (io), 65 PH2 (PCINT18/SEG8) (io), 66 PH3 (PCINT19/SEG7) (io), 68 PC6 (SEG6) (io), 69 PC7 (SEG5) (io), 70 PG2 (SEG4) (io), 71 PA7 (SEG3) (io), 72 PA6 (SEG2) (io), 73 PA5 (SEG1) (io), 74 PA4 (SEG0) (io), 75 PA3 (COM3) (io), 76 PA2 (COM2) (io), 77 PA1 (COM1) (io), 78 PA0 (COM0) (io), 80 VCC (power), 81 GND (power), 84 PH4 (PCINT20/SEG39) (io), 85 PH5 (PCINT21/SEG38) (io), 86 PH6 (PCINT22/SEG37) (io), 87 PH7 (PCINT23/SEG36) (io), 90 PF7 (ADC7/TDI) (io), 91 PF6 (ADC6/TDO) (io), 92 PF5 (ADC5/TMS) (io), 93 PF4 (ADC4/TCK) (io), 94 PF3 (ADC3) (io), 95 PF2 (ADC2) (io), 96 PF1 (ADC1) (io), 97 PF0 (ADC0) (io), 98 AREF (power), 99 AGND (power), 100 AVCC (power)
part B pins: 12 DNC, 15 DNC, 16 DNC, 17 DNC, 18 DNC, 27 DNC, 35 DNC, 36 DNC, 42 DNC, 59 DNC, 60 DNC, 61 DNC, 62 DNC, 67 DNC, 79 DNC, 82 DNC, 83 DNC, 88 DNC, 89 DNC

## ATmega6490V-8AUR
designator U?
8-bit AVR Microcontroller, 1.8-5.5V, 64KB Flash, 2KB EEPROM, 4KB SRAM, 100-pin TQFP, Industrial Grade (-40°C to 85°C), Reel; DatasheetVersion: revK, Apr-2011; PackageVersion: revD, Oct-2010; PackageReference: 100A; PackageDescription: 100-Pin Thin Profile Plastic Quad Flat Pack (TQFP), 14 x 14 x 1.0 mm Body, 0.5 mm Pitch; Code_JEDEC: MS-026-AED; ComponentLink1Description: Manufacturer URL; ComponentLink1URL: http://www.atmel.com/; ComponentLink2Description: ATmega329/3290/649/6490 Datasheet; ComponentLink2URL: http://www.atmel.com/dyn/resources/prod_documents/doc2552.pdf; ComponentLink3Description: ATmega329/3290/649/6490 Summary; ComponentLink3URL: http://www.atmel.com/dyn/resources/prod_documents/2552S.pdf
footprint 100A_N (Thin QFP, 100-Leads, Body 14x14mm, Pitch 0.5mm, IPC Medium Density)
footprint 100A_L (Thin QFP, 100-Leads, Body 14x14mm, Pitch 0.5mm, IPC High Density)
footprint 100A_M (Thin QFP, 100-Leads, Body 14x14mm, Pitch 0.5mm, IPC Low Density)
part A pins: 1 LCDCAP, 2 PE0 (RXD/PCINT0) (io), 3 PE1 (TXD/PCINT1) (io), 4 PE2 (XCK/AIN0/PCINT2) (io), 5 PE3 (AIN1/PCINT3) (io), 6 PE4 (USCK/SCL/PCINT4) (io), 7 PE5 (DI/SDA/PCINT5) (io), 8 PE6 (DO/PCINT6) (io), 9 PE7 (CLKO/PCINT7) (io), 10 VCC (power), 11 GND (power), 13 PJ0 (PCINT24/SEG35) (io), 14 PJ1 (PCINT25/SEG34) (io), 19 PB0 (~{SS}/PCINT8) (io), 20 PB1 (SCK/PCINT9) (io), 21 PB2 (MOSI/PCINT10) (io), 22 PB3 (MISO/PCINT11) (io), 23 PB4 (OC0A/PCINT12) (io), 24 PB5 (OC1A/PCINT13) (io), 25 PB6 (OC1B/PCINT14) (io), 26 PB7 (OC2A/PCINT15) (io), 28 PG3 (T1/SEG33) (io), 29 PG4 (T0/SEG32) (io), 30 PG5/~{RESET} (io), 31 VCC (power), 32 GND (power), 33 XTAL2 (TOSC2) (out), 34 XTAL1 (TOSC1) (in), 37 PJ2 (PCINT26/SEG31) (io), 38 PJ3 (PCINT27/SEG30) (io), 39 PJ4 (PCINT28/SEG29) (io), 40 PJ5 (PCINT29/SEG28) (io), 41 PJ6 (PCINT30/SEG27) (io), 43 PD0 (ICP1/SEG26) (io), 44 PD1 (INT0/SEG25) (io), 45 PD2 (SEG24) (io), 46 PD3 (SEG23) (io), 47 PD4 (SEG22) (io), 48 PD5 (SEG21) (io), 49 PD6 (SEG20) (io), 50 PD7 (SEG19) (io), 51 PG0 (SEG18) (io), 52 PG1 (SEG17) (io), 53 PC0 (SEG16) (io), 54 PC1 (SEG15) (io), 55 PC2 (SEG14) (io), 56 PC3 (SEG13) (io), 57 PC4 (SEG12) (io), 58 PC5 (SEG11) (io), 63 PH0 (PCINT16/SEG10) (io), 64 PH1 (PCINT17/SEG9) (io), 65 PH2 (PCINT18/SEG8) (io), 66 PH3 (PCINT19/SEG7) (io), 68 PC6 (SEG6) (io), 69 PC7 (SEG5) (io), 70 PG2 (SEG4) (io), 71 PA7 (SEG3) (io), 72 PA6 (SEG2) (io), 73 PA5 (SEG1) (io), 74 PA4 (SEG0) (io), 75 PA3 (COM3) (io), 76 PA2 (COM2) (io), 77 PA1 (COM1) (io), 78 PA0 (COM0) (io), 80 VCC (power), 81 GND (power), 84 PH4 (PCINT20/SEG39) (io), 85 PH5 (PCINT21/SEG38) (io), 86 PH6 (PCINT22/SEG37) (io), 87 PH7 (PCINT23/SEG36) (io), 90 PF7 (ADC7/TDI) (io), 91 PF6 (ADC6/TDO) (io), 92 PF5 (ADC5/TMS) (io), 93 PF4 (ADC4/TCK) (io), 94 PF3 (ADC3) (io), 95 PF2 (ADC2) (io), 96 PF1 (ADC1) (io), 97 PF0 (ADC0) (io), 98 AREF (power), 99 AGND (power), 100 AVCC (power)
part B pins: 12 DNC, 15 DNC, 16 DNC, 17 DNC, 18 DNC, 27 DNC, 35 DNC, 36 DNC, 42 DNC, 59 DNC, 60 DNC, 61 DNC, 62 DNC, 67 DNC, 79 DNC, 82 DNC, 83 DNC, 88 DNC, 89 DNC

## ATmega8515-16AC
designator U?
8-bit AVR Microcontroller, 8KB Flash, 512 Bytes EEPROM, 512 Bytes SRAM, 4.5-5.5V, 44-pin TQFP, Commercial Grade (0°C to 70°C); DatasheetVersion: revK, Jan-2010; PackageVersion: revC, Oct-2010; PackageReference: 44A; PackageDescription: 44-Pin Plastic Thin Profile Quad Flat Pack, 10 x 10 x 1.0 mm Body, 0.8 mm Pitch (TQFP); Code_JEDEC: MS-026-ACB; ComponentLink1Description: Manufacturer URL; ComponentLink1URL: http://www.atmel.com/; ComponentLink2Description: ATmega8515(L) Datasheet; ComponentLink2URL: http://www.atmel.com/dyn/resources/prod_documents/doc2512.pdf; ComponentLink3Description: ATmega8515(L) Summary; ComponentLink3URL: http://www.atmel.com/dyn/resources/prod_documents/2512S.pdf
footprint 44A_N (Thin QFP, 44-Leads, Body 10x10mm, Pitch 0.8mm, IPC Medium Density)
footprint 44A_L (Thin QFP, 44-Leads, Body 10x10mm, Pitch 0.8mm, IPC High Density)
footprint 44A_M (Thin QFP, 44-Leads, Body 10x10mm, Pitch 0.8mm, IPC Low Density)
pins: 1 PB5 (MOSI) (io), 2 PB6 (MISO) (io), 3 PB7 (SCK) (io), 4 ~{RESET} (in), 5 PD0 (RXD) (io), 6 NC, 7 PD1 (TXD) (io), 8 PD2 (INT0) (io), 9 PD3 (INT1) (io), 10 PD4 (XCK) (io), 11 PD5 (OC1A) (io), 12 PD6 (~{WR}) (io), 13 PD7 (~{RD}) (io), 14 XTAL2, 15 XTAL1, 16 GND (power), 17 NC, 18 PC0 (A8) (io), 19 PC1 (A9) (io), 20 PC2 (A10) (io), 21 PC3 (A11) (io), 22 PC4 (A12) (io), 23 PC5 (A13) (io), 24 PC6 (A14) (io), 25 PC7 (A15) (io), 26 PE2 (OC1B) (io), 27 PE1 (ALE) (io), 28 NC, 29 PE0 (ICP/INT2) (io), 30 PA7 (AD7) (io), 31 PA6 (AD6) (io), 32 PA5 (AD5) (io), 33 PA4 (AD4) (io), 34 PA3 (AD3) (io), 35 PA2 (AD2) (io), 36 PA1 (AD1) (io), 37 PA0 (AD0) (io), 38 VCC (power), 39 NC, 40 PB0 (OC0/T0) (io), 41 PB1 (T1) (io), 42 PB2 (AIN0) (io), 43 PB3 (AIN1) (io), 44 PB4 (~{SS}) (io)

## ATmega8515-16AI
designator U?
8-bit AVR Microcontroller, 8KB Flash, 512 Bytes EEPROM, 512 Bytes SRAM, 4.5-5.5V, 44-pin TQFP, Industrial Grade (-40°C to 85°C); DatasheetVersion: revK, Jan-2010; PackageVersion: revC, Oct-2010; PackageReference: 44A; PackageDescription: 44-Pin Plastic Thin Profile Quad Flat Pack, 10 x 10 x 1.0 mm Body, 0.8 mm Pitch (TQFP); Code_JEDEC: MS-026-ACB; ComponentLink1Description: Manufacturer URL; ComponentLink1URL: http://www.atmel.com/; ComponentLink2Description: ATmega8515(L) Datasheet; ComponentLink2URL: http://www.atmel.com/dyn/resources/prod_documents/doc2512.pdf; ComponentLink3Description: ATmega8515(L) Summary; ComponentLink3URL: http://www.atmel.com/dyn/resources/prod_documents/2512S.pdf
footprint 44A_N (Thin QFP, 44-Leads, Body 10x10mm, Pitch 0.8mm, IPC Medium Density)
footprint 44A_L (Thin QFP, 44-Leads, Body 10x10mm, Pitch 0.8mm, IPC High Density)
footprint 44A_M (Thin QFP, 44-Leads, Body 10x10mm, Pitch 0.8mm, IPC Low Density)
pins: 1 PB5 (MOSI) (io), 2 PB6 (MISO) (io), 3 PB7 (SCK) (io), 4 ~{RESET} (in), 5 PD0 (RXD) (io), 6 NC, 7 PD1 (TXD) (io), 8 PD2 (INT0) (io), 9 PD3 (INT1) (io), 10 PD4 (XCK) (io), 11 PD5 (OC1A) (io), 12 PD6 (~{WR}) (io), 13 PD7 (~{RD}) (io), 14 XTAL2, 15 XTAL1, 16 GND (power), 17 NC, 18 PC0 (A8) (io), 19 PC1 (A9) (io), 20 PC2 (A10) (io), 21 PC3 (A11) (io), 22 PC4 (A12) (io), 23 PC5 (A13) (io), 24 PC6 (A14) (io), 25 PC7 (A15) (io), 26 PE2 (OC1B) (io), 27 PE1 (ALE) (io), 28 NC, 29 PE0 (ICP/INT2) (io), 30 PA7 (AD7) (io), 31 PA6 (AD6) (io), 32 PA5 (AD5) (io), 33 PA4 (AD4) (io), 34 PA3 (AD3) (io), 35 PA2 (AD2) (io), 36 PA1 (AD1) (io), 37 PA0 (AD0) (io), 38 VCC (power), 39 NC, 40 PB0 (OC0/T0) (io), 41 PB1 (T1) (io), 42 PB2 (AIN0) (io), 43 PB3 (AIN1) (io), 44 PB4 (~{SS}) (io)

## ATmega8515-16AU
designator U?
8-bit AVR Microcontroller, 8KB Flash, 512 Bytes EEPROM, 512 Bytes SRAM, 4.5-5.5V, 44-pin TQFP, Industrial Grade (-40°C to 85°C); DatasheetVersion: revK, Jan-2010; PackageVersion: revC, Oct-2010; PackageReference: 44A; PackageDescription: 44-Pin Plastic Thin Profile Quad Flat Pack, 10 x 10 x 1.0 mm Body, 0.8 mm Pitch (TQFP); Code_JEDEC: MS-026-ACB; ComponentLink1Description: Manufacturer URL; ComponentLink1URL: http://www.atmel.com/; ComponentLink2Description: ATmega8515(L) Datasheet; ComponentLink2URL: http://www.atmel.com/dyn/resources/prod_documents/doc2512.pdf; ComponentLink3Description: ATmega8515(L) Summary; ComponentLink3URL: http://www.atmel.com/dyn/resources/prod_documents/2512S.pdf
footprint 44A_N (Thin QFP, 44-Leads, Body 10x10mm, Pitch 0.8mm, IPC Medium Density)
footprint 44A_L (Thin QFP, 44-Leads, Body 10x10mm, Pitch 0.8mm, IPC High Density)
footprint 44A_M (Thin QFP, 44-Leads, Body 10x10mm, Pitch 0.8mm, IPC Low Density)
pins: 1 PB5 (MOSI) (io), 2 PB6 (MISO) (io), 3 PB7 (SCK) (io), 4 ~{RESET} (in), 5 PD0 (RXD) (io), 6 NC, 7 PD1 (TXD) (io), 8 PD2 (INT0) (io), 9 PD3 (INT1) (io), 10 PD4 (XCK) (io), 11 PD5 (OC1A) (io), 12 PD6 (~{WR}) (io), 13 PD7 (~{RD}) (io), 14 XTAL2, 15 XTAL1, 16 GND (power), 17 NC, 18 PC0 (A8) (io), 19 PC1 (A9) (io), 20 PC2 (A10) (io), 21 PC3 (A11) (io), 22 PC4 (A12) (io), 23 PC5 (A13) (io), 24 PC6 (A14) (io), 25 PC7 (A15) (io), 26 PE2 (OC1B) (io), 27 PE1 (ALE) (io), 28 NC, 29 PE0 (ICP/INT2) (io), 30 PA7 (AD7) (io), 31 PA6 (AD6) (io), 32 PA5 (AD5) (io), 33 PA4 (AD4) (io), 34 PA3 (AD3) (io), 35 PA2 (AD2) (io), 36 PA1 (AD1) (io), 37 PA0 (AD0) (io), 38 VCC (power), 39 NC, 40 PB0 (OC0/T0) (io), 41 PB1 (T1) (io), 42 PB2 (AIN0) (io), 43 PB3 (AIN1) (io), 44 PB4 (~{SS}) (io)

## ATmega8515-16JC
designator U?
8-bit AVR Microcontroller, 8KB Flash, 512 Bytes EEPROM, 512 Bytes SRAM, 4.5-5.5V, 44-pin PLCC, Commercial Grade (0°C to 70°C); DatasheetVersion: revK, Jan-2010; PackageVersion: rev.B, Oct-2001; PackageReference: 44J; PackageDescription: 44-Pin Plastic J-Leaded Chip Carrier 1.27 mm Pitch (PLCC); Code_JEDEC: MS-018-AC; Code_IPC: PLCC-44; ComponentLink1Description: Manufacturer URL; ComponentLink1URL: http://www.atmel.com/; ComponentLink2Description: ATmega8515(L) Datasheet; ComponentLink2URL: http://www.atmel.com/dyn/resources/prod_documents/doc2512.pdf; ComponentLink3Description: ATmega8515(L) Summary; ComponentLink3URL: http://www.atmel.com/dyn/resources/prod_documents/2512S.pdf
footprint 44J_N (Leaded Chip Carrier, 44-Leads, Body 16.6x16.6mm, Pitch 1.27mm, IPC Medium Density)
footprint 44J_L (Leaded Chip Carrier, 44-Leads, Body 16.6x16.6mm, Pitch 1.27mm, IPC High Density)
footprint 44J_M (Leaded Chip Carrier, 44-Leads, Body 16.6x16.6mm, Pitch 1.27mm, IPC Low Density)
pins: 1 NC, 2 PB0 (OC0/T0) (io), 3 PB1 (T1) (io), 4 PB2 (AIN0) (io), 5 PB3 (AIN1) (io), 6 PB4 (~{SS}) (io), 7 PB5 (MOSI) (io), 8 PB6 (MISO) (io), 9 PB7 (SCK) (io), 10 ~{RESET} (in), 11 PD0 (RXD) (io), 12 NC, 13 PD1 (TXD) (io), 14 PD2 (INT0) (io), 15 PD3 (INT1) (io), 16 PD4 (XCK) (io), 17 PD5 (OC1A) (io), 18 PD6 (~{WR}) (io), 19 PD7 (~{RD}) (io), 20 XTAL2, 21 XTAL1, 22 GND (power), 23 NC, 24 PC0 (A8) (io), 25 PC1 (A9) (io), 26 PC2 (A10) (io), 27 PC3 (A11) (io), 28 PC4 (A12) (io), 29 PC5 (A13) (io), 30 PC6 (A14) (io), 31 PC7 (A15) (io), 32 PE2 (OC1B) (io), 33 PE1 (ALE) (io), 34 NC, 35 PE0 (ICP/INT2) (io), 36 PA7 (AD7) (io), 37 PA6 (AD6) (io), 38 PA5 (AD5) (io), 39 PA4 (AD4) (io), 40 PA3 (AD3) (io), 41 PA2 (AD2) (io), 42 PA1 (AD1) (io), 43 PA0 (AD0) (io), 44 VCC (power)

## ATmega8515-16JI
designator U?
8-bit AVR Microcontroller, 8KB Flash, 512 Bytes EEPROM, 512 Bytes SRAM, 4.5-5.5V, 44-pin PLCC, Industrial Grade (-40°C to 85°C); DatasheetVersion: revK, Jan-2010; PackageVersion: rev.B, Oct-2001; PackageReference: 44J; PackageDescription: 44-Pin Plastic J-Leaded Chip Carrier 1.27 mm Pitch (PLCC); Code_JEDEC: MS-018-AC; Code_IPC: PLCC-44; ComponentLink1Description: Manufacturer URL; ComponentLink1URL: http://www.atmel.com/; ComponentLink2Description: ATmega8515(L) Datasheet; ComponentLink2URL: http://www.atmel.com/dyn/resources/prod_documents/doc2512.pdf; ComponentLink3Description: ATmega8515(L) Summary; ComponentLink3URL: http://www.atmel.com/dyn/resources/prod_documents/2512S.pdf
footprint 44J_N (Leaded Chip Carrier, 44-Leads, Body 16.6x16.6mm, Pitch 1.27mm, IPC Medium Density)
footprint 44J_L (Leaded Chip Carrier, 44-Leads, Body 16.6x16.6mm, Pitch 1.27mm, IPC High Density)
footprint 44J_M (Leaded Chip Carrier, 44-Leads, Body 16.6x16.6mm, Pitch 1.27mm, IPC Low Density)
pins: 1 NC, 2 PB0 (OC0/T0) (io), 3 PB1 (T1) (io), 4 PB2 (AIN0) (io), 5 PB3 (AIN1) (io), 6 PB4 (~{SS}) (io), 7 PB5 (MOSI) (io), 8 PB6 (MISO) (io), 9 PB7 (SCK) (io), 10 ~{RESET} (in), 11 PD0 (RXD) (io), 12 NC, 13 PD1 (TXD) (io), 14 PD2 (INT0) (io), 15 PD3 (INT1) (io), 16 PD4 (XCK) (io), 17 PD5 (OC1A) (io), 18 PD6 (~{WR}) (io), 19 PD7 (~{RD}) (io), 20 XTAL2, 21 XTAL1, 22 GND (power), 23 NC, 24 PC0 (A8) (io), 25 PC1 (A9) (io), 26 PC2 (A10) (io), 27 PC3 (A11) (io), 28 PC4 (A12) (io), 29 PC5 (A13) (io), 30 PC6 (A14) (io), 31 PC7 (A15) (io), 32 PE2 (OC1B) (io), 33 PE1 (ALE) (io), 34 NC, 35 PE0 (ICP/INT2) (io), 36 PA7 (AD7) (io), 37 PA6 (AD6) (io), 38 PA5 (AD5) (io), 39 PA4 (AD4) (io), 40 PA3 (AD3) (io), 41 PA2 (AD2) (io), 42 PA1 (AD1) (io), 43 PA0 (AD0) (io), 44 VCC (power)

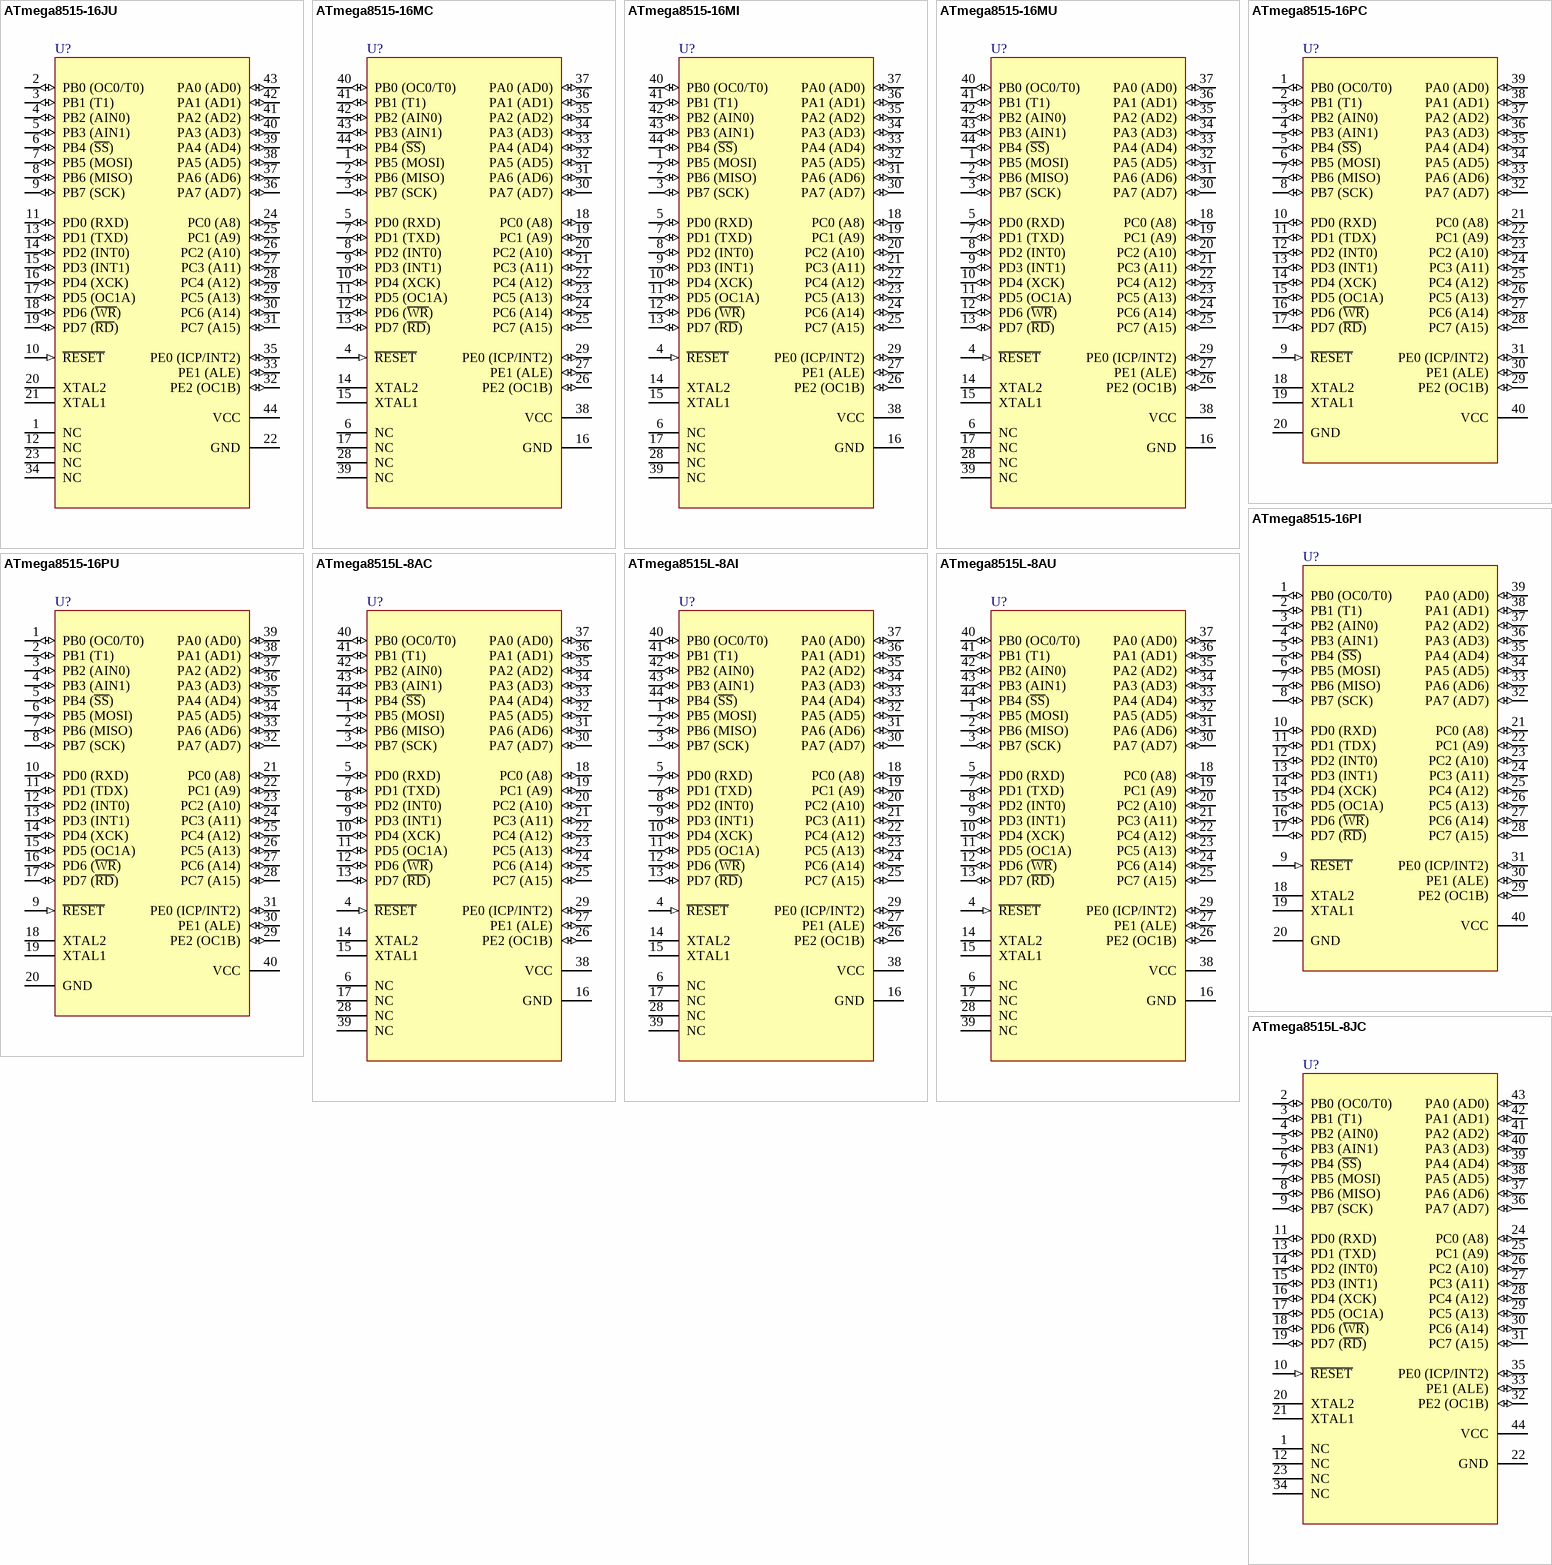
[diagram p84: symbols ATmega8515-16JU to ATmega8515L-8JC]

## ATmega8515-16JU
designator U?
8-bit AVR Microcontroller, 8KB Flash, 512 Bytes EEPROM, 512 Bytes SRAM, 4.5-5.5V, 44-pin PLCC, Industrial Grade (-40°C to 85°C); DatasheetVersion: revK, Jan-2010; PackageVersion: rev.B, Oct-2001; PackageReference: 44J; PackageDescription: 44-Pin Plastic J-Leaded Chip Carrier 1.27 mm Pitch (PLCC); Code_JEDEC: MS-018-AC; Code_IPC: PLCC-44; ComponentLink1Description: Manufacturer URL; ComponentLink1URL: http://www.atmel.com/; ComponentLink2Description: ATmega8515(L) Datasheet; ComponentLink2URL: http://www.atmel.com/dyn/resources/prod_documents/doc2512.pdf; ComponentLink3Description: ATmega8515(L) Summary; ComponentLink3URL: http://www.atmel.com/dyn/resources/prod_documents/2512S.pdf
footprint 44J_N (Leaded Chip Carrier, 44-Leads, Body 16.6x16.6mm, Pitch 1.27mm, IPC Medium Density)
footprint 44J_L (Leaded Chip Carrier, 44-Leads, Body 16.6x16.6mm, Pitch 1.27mm, IPC High Density)
footprint 44J_M (Leaded Chip Carrier, 44-Leads, Body 16.6x16.6mm, Pitch 1.27mm, IPC Low Density)
pins: 1 NC, 2 PB0 (OC0/T0) (io), 3 PB1 (T1) (io), 4 PB2 (AIN0) (io), 5 PB3 (AIN1) (io), 6 PB4 (~{SS}) (io), 7 PB5 (MOSI) (io), 8 PB6 (MISO) (io), 9 PB7 (SCK) (io), 10 ~{RESET} (in), 11 PD0 (RXD) (io), 12 NC, 13 PD1 (TXD) (io), 14 PD2 (INT0) (io), 15 PD3 (INT1) (io), 16 PD4 (XCK) (io), 17 PD5 (OC1A) (io), 18 PD6 (~{WR}) (io), 19 PD7 (~{RD}) (io), 20 XTAL2, 21 XTAL1, 22 GND (power), 23 NC, 24 PC0 (A8) (io), 25 PC1 (A9) (io), 26 PC2 (A10) (io), 27 PC3 (A11) (io), 28 PC4 (A12) (io), 29 PC5 (A13) (io), 30 PC6 (A14) (io), 31 PC7 (A15) (io), 32 PE2 (OC1B) (io), 33 PE1 (ALE) (io), 34 NC, 35 PE0 (ICP/INT2) (io), 36 PA7 (AD7) (io), 37 PA6 (AD6) (io), 38 PA5 (AD5) (io), 39 PA4 (AD4) (io), 40 PA3 (AD3) (io), 41 PA2 (AD2) (io), 42 PA1 (AD1) (io), 43 PA0 (AD0) (io), 44 VCC (power)

## ATmega8515-16MC
designator U?
8-bit AVR Microcontroller, 8KB Flash, 512 Bytes EEPROM, 512 Bytes SRAM, 4.5-5.5V, 44-pin VQFN, Commercial Grade (0°C to 70°C); DatasheetVersion: revK, Jan-2010; PackageVersion: revH, Sep-2008; PackageReference: 44M1; PackageDescription: 44-Pin Plastic Very Thin Quad Flat No-Lead Package, 7 x 7 x 1.0 mm Body, 0.5 mm Pitch (VQFN), 5.2 mm Exposed Pad; Code_JEDEC: MO-220-VKKD-1; ComponentLink1Description: Manufacturer URL; ComponentLink1URL: http://www.atmel.com/; ComponentLink2Description: ATmega8515(L) Datasheet; ComponentLink2URL: http://www.atmel.com/dyn/resources/prod_documents/doc2512.pdf; ComponentLink3Description: ATmega8515(L) Summary; ComponentLink3URL: http://www.atmel.com/dyn/resources/prod_documents/2512S.pdf
footprint 44M1_N (QFN, 44-Leads, Body 7x7mm, Pitch 0.5mm, Thermal Pad 5.3x5.3mm, IPC Medium Density)
footprint 44M1_L (QFN, 44-Leads, Body 7x7mm, Pitch 0.5mm, Thermal Pad 5.3x5.3mm, IPC High Density)
footprint 44M1_M (QFN, 44-Leads, Body 7x7mm, Pitch 0.5mm, Thermal Pad 5.3x5.3mm, IPC Low Density)
pins: 1 PB5 (MOSI) (io), 2 PB6 (MISO) (io), 3 PB7 (SCK) (io), 4 ~{RESET} (in), 5 PD0 (RXD) (io), 6 NC, 7 PD1 (TXD) (io), 8 PD2 (INT0) (io), 9 PD3 (INT1) (io), 10 PD4 (XCK) (io), 11 PD5 (OC1A) (io), 12 PD6 (~{WR}) (io), 13 PD7 (~{RD}) (io), 14 XTAL2, 15 XTAL1, 16 GND (power), 17 NC, 18 PC0 (A8) (io), 19 PC1 (A9) (io), 20 PC2 (A10) (io), 21 PC3 (A11) (io), 22 PC4 (A12) (io), 23 PC5 (A13) (io), 24 PC6 (A14) (io), 25 PC7 (A15) (io), 26 PE2 (OC1B) (io), 27 PE1 (ALE) (io), 28 NC, 29 PE0 (ICP/INT2) (io), 30 PA7 (AD7) (io), 31 PA6 (AD6) (io), 32 PA5 (AD5) (io), 33 PA4 (AD4) (io), 34 PA3 (AD3) (io), 35 PA2 (AD2) (io), 36 PA1 (AD1) (io), 37 PA0 (AD0) (io), 38 VCC (power), 39 NC, 40 PB0 (OC0/T0) (io), 41 PB1 (T1) (io), 42 PB2 (AIN0) (io), 43 PB3 (AIN1) (io), 44 PB4 (~{SS}) (io)

## ATmega8515-16MI
designator U?
8-bit AVR Microcontroller, 8KB Flash, 512 Bytes EEPROM, 512 Bytes SRAM, 4.5-5.5V, 44-pin VQFN, Industrial Grade (-40°C to 85°C); DatasheetVersion: revK, Jan-2010; PackageVersion: revH, Sep-2008; PackageReference: 44M1; PackageDescription: 44-Pin Plastic Very Thin Quad Flat No-Lead Package, 7 x 7 x 1.0 mm Body, 0.5 mm Pitch (VQFN), 5.2 mm Exposed Pad; Code_JEDEC: MO-220-VKKD-1; ComponentLink1Description: Manufacturer URL; ComponentLink1URL: http://www.atmel.com/; ComponentLink2Description: ATmega8515(L) Datasheet; ComponentLink2URL: http://www.atmel.com/dyn/resources/prod_documents/doc2512.pdf; ComponentLink3Description: ATmega8515(L) Summary; ComponentLink3URL: http://www.atmel.com/dyn/resources/prod_documents/2512S.pdf
footprint 44M1_N (QFN, 44-Leads, Body 7x7mm, Pitch 0.5mm, Thermal Pad 5.3x5.3mm, IPC Medium Density)
footprint 44M1_L (QFN, 44-Leads, Body 7x7mm, Pitch 0.5mm, Thermal Pad 5.3x5.3mm, IPC High Density)
footprint 44M1_M (QFN, 44-Leads, Body 7x7mm, Pitch 0.5mm, Thermal Pad 5.3x5.3mm, IPC Low Density)
pins: 1 PB5 (MOSI) (io), 2 PB6 (MISO) (io), 3 PB7 (SCK) (io), 4 ~{RESET} (in), 5 PD0 (RXD) (io), 6 NC, 7 PD1 (TXD) (io), 8 PD2 (INT0) (io), 9 PD3 (INT1) (io), 10 PD4 (XCK) (io), 11 PD5 (OC1A) (io), 12 PD6 (~{WR}) (io), 13 PD7 (~{RD}) (io), 14 XTAL2, 15 XTAL1, 16 GND (power), 17 NC, 18 PC0 (A8) (io), 19 PC1 (A9) (io), 20 PC2 (A10) (io), 21 PC3 (A11) (io), 22 PC4 (A12) (io), 23 PC5 (A13) (io), 24 PC6 (A14) (io), 25 PC7 (A15) (io), 26 PE2 (OC1B) (io), 27 PE1 (ALE) (io), 28 NC, 29 PE0 (ICP/INT2) (io), 30 PA7 (AD7) (io), 31 PA6 (AD6) (io), 32 PA5 (AD5) (io), 33 PA4 (AD4) (io), 34 PA3 (AD3) (io), 35 PA2 (AD2) (io), 36 PA1 (AD1) (io), 37 PA0 (AD0) (io), 38 VCC (power), 39 NC, 40 PB0 (OC0/T0) (io), 41 PB1 (T1) (io), 42 PB2 (AIN0) (io), 43 PB3 (AIN1) (io), 44 PB4 (~{SS}) (io)

## ATmega8515-16MU
designator U?
8-bit AVR Microcontroller, 8KB Flash, 512 Bytes EEPROM, 512 Bytes SRAM, 4.5-5.5V, 44-pin VQFN, Industrial Grade (-40°C to 85°C); DatasheetVersion: revK, Jan-2010; PackageVersion: revH, Sep-2008; PackageReference: 44M1; PackageDescription: 44-Pin Plastic Very Thin Quad Flat No-Lead Package, 7 x 7 x 1.0 mm Body, 0.5 mm Pitch (VQFN), 5.2 mm Exposed Pad; Code_JEDEC: MO-220-VKKD-1; ComponentLink1Description: Manufacturer URL; ComponentLink1URL: http://www.atmel.com/; ComponentLink2Description: ATmega8515(L) Datasheet; ComponentLink2URL: http://www.atmel.com/dyn/resources/prod_documents/doc2512.pdf; ComponentLink3Description: ATmega8515(L) Summary; ComponentLink3URL: http://www.atmel.com/dyn/resources/prod_documents/2512S.pdf
footprint 44M1_N (QFN, 44-Leads, Body 7x7mm, Pitch 0.5mm, Thermal Pad 5.3x5.3mm, IPC Medium Density)
footprint 44M1_L (QFN, 44-Leads, Body 7x7mm, Pitch 0.5mm, Thermal Pad 5.3x5.3mm, IPC High Density)
footprint 44M1_M (QFN, 44-Leads, Body 7x7mm, Pitch 0.5mm, Thermal Pad 5.3x5.3mm, IPC Low Density)
pins: 1 PB5 (MOSI) (io), 2 PB6 (MISO) (io), 3 PB7 (SCK) (io), 4 ~{RESET} (in), 5 PD0 (RXD) (io), 6 NC, 7 PD1 (TXD) (io), 8 PD2 (INT0) (io), 9 PD3 (INT1) (io), 10 PD4 (XCK) (io), 11 PD5 (OC1A) (io), 12 PD6 (~{WR}) (io), 13 PD7 (~{RD}) (io), 14 XTAL2, 15 XTAL1, 16 GND (power), 17 NC, 18 PC0 (A8) (io), 19 PC1 (A9) (io), 20 PC2 (A10) (io), 21 PC3 (A11) (io), 22 PC4 (A12) (io), 23 PC5 (A13) (io), 24 PC6 (A14) (io), 25 PC7 (A15) (io), 26 PE2 (OC1B) (io), 27 PE1 (ALE) (io), 28 NC, 29 PE0 (ICP/INT2) (io), 30 PA7 (AD7) (io), 31 PA6 (AD6) (io), 32 PA5 (AD5) (io), 33 PA4 (AD4) (io), 34 PA3 (AD3) (io), 35 PA2 (AD2) (io), 36 PA1 (AD1) (io), 37 PA0 (AD0) (io), 38 VCC (power), 39 NC, 40 PB0 (OC0/T0) (io), 41 PB1 (T1) (io), 42 PB2 (AIN0) (io), 43 PB3 (AIN1) (io), 44 PB4 (~{SS}) (io)

## ATmega8515-16PC
designator U?
8-bit AVR Microcontroller, 8KB Flash, 512 Bytes EEPROM, 512 Bytes SRAM, 4.5-5.5V, 40-pin PDIP, Commercial Grade (0°C to 70°C); DatasheetVersion: revK, Jan-2010; PackageVersion: revB, Sep-2001; PackageReference: 40P6; PackageDescription: 40-lead (0.600"/15.24mm Wide) Plastic Dual Inline Package (PDIP); Code_JEDEC: MS-011-AC; ComponentLink1Description: Manufacturer URL; ComponentLink1URL: http://www.atmel.com/; ComponentLink2Description: ATmega8515(L) Datasheet; ComponentLink2URL: http://www.atmel.com/dyn/resources/prod_documents/doc2512.pdf; ComponentLink3Description: ATmega8515(L) Summary; ComponentLink3URL: http://www.atmel.com/dyn/resources/prod_documents/2512S.pdf
footprint 40P6 (DIP, 40-Leads, Row Spacing 15.24mm, Pitch 2.54mm, Body 52.2x13.95mm)
pins: 1 PB0 (OC0/T0) (io), 2 PB1 (T1) (io), 3 PB2 (AIN0) (io), 4 PB3 (AIN1) (io), 5 PB4 (~{SS}) (io), 6 PB5 (MOSI) (io), 7 PB6 (MISO) (io), 8 PB7 (SCK) (io), 9 ~{RESET} (in), 10 PD0 (RXD) (io), 11 PD1 (TDX) (io), 12 PD2 (INT0) (io), 13 PD3 (INT1) (io), 14 PD4 (XCK) (io), 15 PD5 (OC1A) (io), 16 PD6 (~{WR}) (io), 17 PD7 (~{RD}) (io), 18 XTAL2, 19 XTAL1, 20 GND (power), 21 PC0 (A8) (io), 22 PC1 (A9) (io), 23 PC2 (A10) (io), 24 PC3 (A11) (io), 25 PC4 (A12) (io), 26 PC5 (A13) (io), 27 PC6 (A14) (io), 28 PC7 (A15) (io), 29 PE2 (OC1B) (io), 30 PE1 (ALE) (io), 31 PE0 (ICP/INT2) (io), 32 PA7 (AD7) (io), 33 PA6 (AD6) (io), 34 PA5 (AD5) (io), 35 PA4 (AD4) (io), 36 PA3 (AD3) (io), 37 PA2 (AD2) (io), 38 PA1 (AD1) (io), 39 PA0 (AD0) (io), 40 VCC (power)

## ATmega8515-16PI
designator U?
8-bit AVR Microcontroller, 8KB Flash, 512 Bytes EEPROM, 512 Bytes SRAM, 4.5-5.5V, 40-pin PDIP, Industrial Grade (-40°C to 85°C); DatasheetVersion: revK, Jan-2010; PackageVersion: revB, Sep-2001; PackageReference: 40P6; PackageDescription: 40-lead (0.600"/15.24mm Wide) Plastic Dual Inline Package (PDIP); Code_JEDEC: MS-011-AC; ComponentLink1Description: Manufacturer URL; ComponentLink1URL: http://www.atmel.com/; ComponentLink2Description: ATmega8515(L) Datasheet; ComponentLink2URL: http://www.atmel.com/dyn/resources/prod_documents/doc2512.pdf; ComponentLink3Description: ATmega8515(L) Summary; ComponentLink3URL: http://www.atmel.com/dyn/resources/prod_documents/2512S.pdf
footprint 40P6 (DIP, 40-Leads, Row Spacing 15.24mm, Pitch 2.54mm, Body 52.2x13.95mm)
pins: 1 PB0 (OC0/T0) (io), 2 PB1 (T1) (io), 3 PB2 (AIN0) (io), 4 PB3 (AIN1) (io), 5 PB4 (~{SS}) (io), 6 PB5 (MOSI) (io), 7 PB6 (MISO) (io), 8 PB7 (SCK) (io), 9 ~{RESET} (in), 10 PD0 (RXD) (io), 11 PD1 (TDX) (io), 12 PD2 (INT0) (io), 13 PD3 (INT1) (io), 14 PD4 (XCK) (io), 15 PD5 (OC1A) (io), 16 PD6 (~{WR}) (io), 17 PD7 (~{RD}) (io), 18 XTAL2, 19 XTAL1, 20 GND (power), 21 PC0 (A8) (io), 22 PC1 (A9) (io), 23 PC2 (A10) (io), 24 PC3 (A11) (io), 25 PC4 (A12) (io), 26 PC5 (A13) (io), 27 PC6 (A14) (io), 28 PC7 (A15) (io), 29 PE2 (OC1B) (io), 30 PE1 (ALE) (io), 31 PE0 (ICP/INT2) (io), 32 PA7 (AD7) (io), 33 PA6 (AD6) (io), 34 PA5 (AD5) (io), 35 PA4 (AD4) (io), 36 PA3 (AD3) (io), 37 PA2 (AD2) (io), 38 PA1 (AD1) (io), 39 PA0 (AD0) (io), 40 VCC (power)